# Altium integrated library Lattice CPLD ispMACH.IntLib: 663 symbols (part 41 of 48)
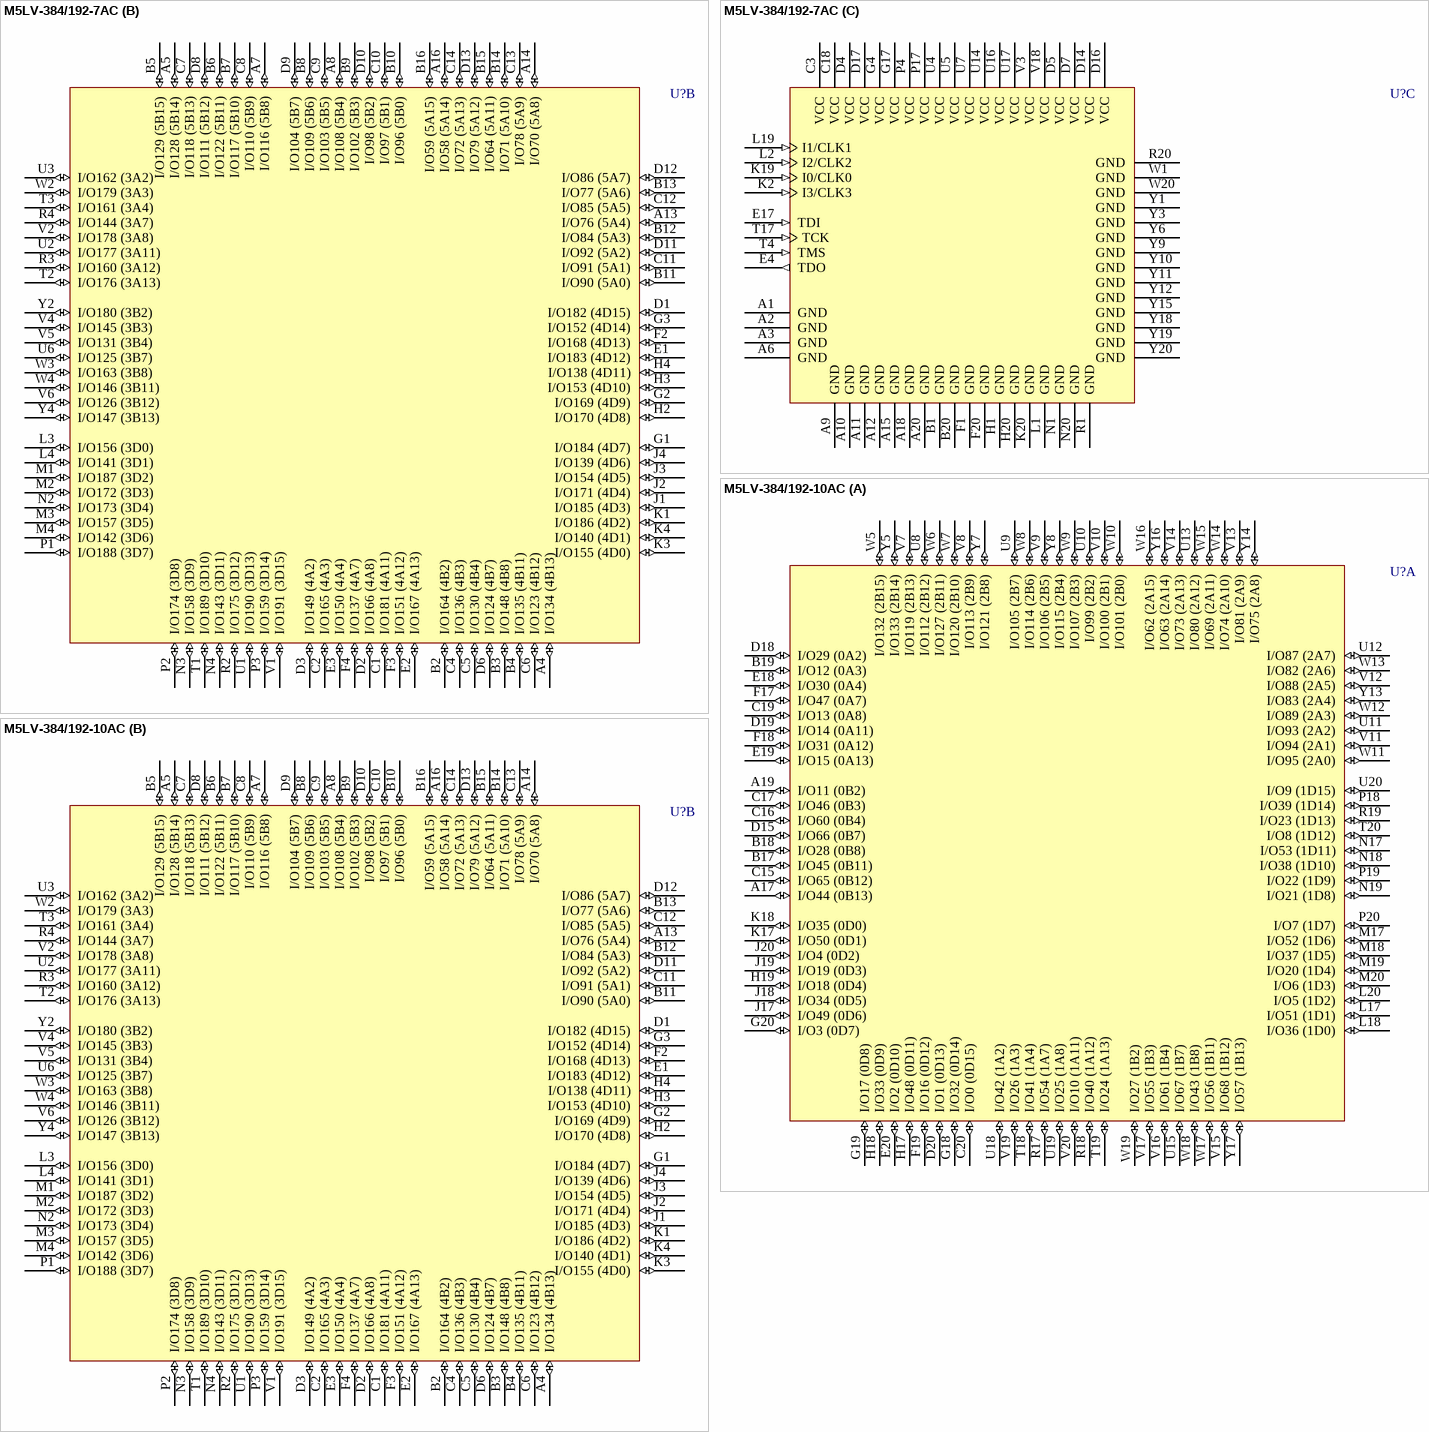
[diagram p346: symbols M5LV-384/192-7AC to M5LV-384/192-10AC]

## M5LV-384/192-7AC
designator U?
High-Density and High-I/O Complex PLD; Published: 23-Sep-2002; LatestRevisionDate: 13-Apr-2006; LatestRevisionNote: IPC-7351 Footprint Added.; DatasheetVersion: Sep-2000; PackageVersion: pkg_32, Aug-2005; PackageReference: SBGA256; Publisher: Altium Limited; PackageDescription: 256-Ball Super Ball Grid Array (SBGA256); ComponentLink1Description: Manufacturer Link; ComponentLink1URL: http://www.latticesemi.com/products/mature/index.cfm; ComponentLink2Description: Datasheet; ComponentLink2URL: http://www.latticesemi.com/lit/docs/datasheets/cpld/mach5.pdf
footprint SBGA256 (BGA, 256-Leads, Body 27x27mm, Pitch 1.27mm)
3D model M5LV-SBGA256 (256-Ball Super Ball Grid Array (SBGA256))
part A pins: A17 I/O44 (0B13) (io), A19 I/O11 (0B2) (io), B17 I/O45 (0B11) (io), B18 I/O28 (0B8) (io), B19 I/O12 (0A3) (io), C15 I/O65 (0B12) (io), C16 I/O60 (0B4) (io), C17 I/O46 (0B3) (io), C19 I/O13 (0A8) (io), C20 I/O0 (0D15) (io), D15 I/O66 (0B7) (io), D18 I/O29 (0A2) (io), D19 I/O14 (0A11) (io), D20 I/O1 (0D13) (io), E18 I/O30 (0A4) (io), E19 I/O15 (0A13) (io), E20 I/O2 (0D10) (io), F17 I/O47 (0A7) (io), F18 I/O31 (0A12) (io), F19 I/O16 (0D12) (io), G18 I/O32 (0D14) (io), G19 I/O17 (0D8) (io), G20 I/O3 (0D7) (io), H17 I/O48 (0D11) (io), H18 I/O33 (0D9) (io), H19 I/O18 (0D4) (io), J17 I/O49 (0D6) (io), J18 I/O34 (0D5) (io), J19 I/O19 (0D3) (io), J20 I/O4 (0D2) (io), K17 I/O50 (0D1) (io), K18 I/O35 (0D0) (io), L17 I/O51 (1D1) (io), L18 I/O36 (1D0) (io), L20 I/O5 (1D2) (io), M17 I/O52 (1D6) (io), M18 I/O37 (1D5) (io), M19 I/O20 (1D4) (io), M20 I/O6 (1D3) (io), N17 I/O53 (1D11) (io), N18 I/O38 (1D10) (io), N19 I/O21 (1D8) (io), P18 I/O39 (1D14) (io), P19 I/O22 (1D9) (io), P20 I/O7 (1D7) (io), R17 I/O54 (1A7) (io), R18 I/O40 (1A12) (io), R19 I/O23 (1D13) (io), T18 I/O41 (1A4) (io), T19 I/O24 (1A13) (io), T20 I/O8 (1D12) (io), U8 I/O112 (2B12) (io), U9 I/O105 (2B7) (io), U10 I/O99 (2B2) (io), U11 I/O93 (2A2) (io), U12 I/O87 (2A7) (io), U13 I/O80 (2A12) (io), U15 I/O67 (1B7) (io), U18 I/O42 (1A2) (io), U19 I/O25 (1A8) (io), U20 I/O9 (1D15) (io), V7 I/O119 (2B13) (io), V8 I/O113 (2B9) (io), V9 I/O106 (2B5) (io), V10 I/O100 (2B1) (io), V11 I/O94 (2A1) (io), V12 I/O88 (2A5) (io), V13 I/O81 (2A9) (io), V14 I/O73 (2A13) (io), V15 I/O68 (1B12) (io), V16 I/O61 (1B4) (io), V17 I/O55 (1B3) (io), V19 I/O26 (1A3) (io), V20 I/O10 (1A11) (io), W5 I/O132 (2B15) (io), W6 I/O127 (2B11) (io), W7 I/O120 (2B10) (io), W8 I/O114 (2B6) (io), W9 I/O107 (2B3) (io), W10 I/O101 (2B0) (io), W11 I/O95 (2A0) (io), W12 I/O89 (2A3) (io), W13 I/O82 (2A6) (io), W14 I/O74 (2A10) (io), W15 I/O69 (2A11) (io), W16 I/O62 (2A15) (io), W17 I/O56 (1B11) (io), W18 I/O43 (1B8) (io), W19 I/O27 (1B2) (io), Y5 I/O133 (2B14) (io), Y7 I/O121 (2B8) (io), Y8 I/O115 (2B4) (io), Y13 I/O83 (2A4) (io), Y14 I/O75 (2A8) (io), Y16 I/O63 (2A14) (io), Y17 I/O57 (1B13) (io)
part B pins: A4 I/O134 (4B13) (io), A5 I/O128 (5B14) (io), A7 I/O116 (5B8) (io), A8 I/O108 (5B4) (io), A13 I/O76 (5A4) (io), A14 I/O70 (5A8) (io), A16 I/O58 (5A14) (io), B2 I/O164 (4B2) (io), B3 I/O148 (4B8) (io), B4 I/O135 (4B11) (io), B5 I/O129 (5B15) (io), B6 I/O122 (5B11) (io), B7 I/O117 (5B10) (io), B8 I/O109 (5B6) (io), B9 I/O102 (5B3) (io), B10 I/O96 (5B0) (io), B11 I/O90 (5A0) (io), B12 I/O84 (5A3) (io), B13 I/O77 (5A6) (io), B14 I/O71 (5A10) (io), B15 I/O64 (5A11) (io), B16 I/O59 (5A15) (io), C1 I/O181 (4A11) (io), C2 I/O165 (4A3) (io), C4 I/O136 (4B3) (io), C5 I/O130 (4B4) (io), C6 I/O123 (4B12) (io), C7 I/O118 (5B13) (io), C8 I/O110 (5B9) (io), C9 I/O103 (5B5) (io), C10 I/O97 (5B1) (io), C11 I/O91 (5A1) (io), C12 I/O85 (5A5) (io), C13 I/O78 (5A9) (io), C14 I/O72 (5A13) (io), D1 I/O182 (4D15) (io), D2 I/O166 (4A8) (io), D3 I/O149 (4A2) (io), D6 I/O124 (4B7) (io), D8 I/O111 (5B12) (io), D9 I/O104 (5B7) (io), D10 I/O98 (5B2) (io), D11 I/O92 (5A2) (io), D12 I/O86 (5A7) (io), D13 I/O79 (5A12) (io), E1 I/O183 (4D12) (io), E2 I/O167 (4A13) (io), E3 I/O150 (4A4) (io), F2 I/O168 (4D13) (io), F3 I/O151 (4A12) (io), F4 I/O137 (4A7) (io), G1 I/O184 (4D7) (io), G2 I/O169 (4D9) (io), G3 I/O152 (4D14) (io), H2 I/O170 (4D8) (io), H3 I/O153 (4D10) (io), H4 I/O138 (4D11) (io), J1 I/O185 (4D3) (io), J2 I/O171 (4D4) (io), J3 I/O154 (4D5) (io), J4 I/O139 (4D6) (io), K1 I/O186 (4D2) (io), K3 I/O155 (4D0) (io), K4 I/O140 (4D1) (io), L3 I/O156 (3D0) (io), L4 I/O141 (3D1) (io), M1 I/O187 (3D2) (io), M2 I/O172 (3D3) (io), M3 I/O157 (3D5) (io), M4 I/O142 (3D6) (io), N2 I/O173 (3D4) (io), N3 I/O158 (3D9) (io), N4 I/O143 (3D11) (io), P1 I/O188 (3D7) (io), P2 I/O174 (3D8) (io), P3 I/O159 (3D14) (io), R2 I/O175 (3D12) (io), R3 I/O160 (3A12) (io), R4 I/O144 (3A7) (io), T1 I/O189 (3D10) (io), T2 I/O176 (3A13) (io), T3 I/O161 (3A4) (io), U1 I/O190 (3D13) (io), U2 I/O177 (3A11) (io), U3 I/O162 (3A2) (io), U6 I/O125 (3B7) (io), V1 I/O191 (3D15) (io), V2 I/O178 (3A8) (io), V4 I/O145 (3B3) (io), V5 I/O131 (3B4) (io), V6 I/O126 (3B12) (io), W2 I/O179 (3A3) (io), W3 I/O163 (3B8) (io), W4 I/O146 (3B11) (io), Y2 I/O180 (3B2) (io), Y4 I/O147 (3B13) (io)
part C pins: A1 GND (power), A2 GND (power), A3 GND (power), A6 GND (power), A9 GND (power), A10 GND (power), A11 GND (power), A12 GND (power), A15 GND (power), A18 GND (power), A20 GND (power), B1 GND (power), B20 GND (power), C3 VCC (power), C18 VCC (power), D4 VCC (power), D5 VCC (power), D7 VCC (power), D14 VCC (power), D16 VCC (power), D17 VCC (power), E4 TDO (out), E17 TDI (in), F1 GND (power), F20 GND (power), G4 VCC (power), G17 VCC (power), H1 GND (power), H20 GND (power), K2 I3/CLK3 (in), K19 I0/CLK0 (in), K20 GND (power), L1 GND (power), L2 I2/CLK2 (in), L19 I1/CLK1 (in), N1 GND (power), N20 GND (power), P4 VCC (power), P17 VCC (power), R1 GND (power), R20 GND (power), T4 TMS (in), T17 TCK (in), U4 VCC (power), U5 VCC (power), U7 VCC (power), U14 VCC (power), U16 VCC (power), U17 VCC (power), V3 VCC (power), V18 VCC (power), W1 GND (power), W20 GND (power), Y1 GND (power), Y3 GND (power), Y6 GND (power), Y9 GND (power), Y10 GND (power), Y11 GND (power), Y12 GND (power), Y15 GND (power), Y18 GND (power), Y19 GND (power), Y20 GND (power)

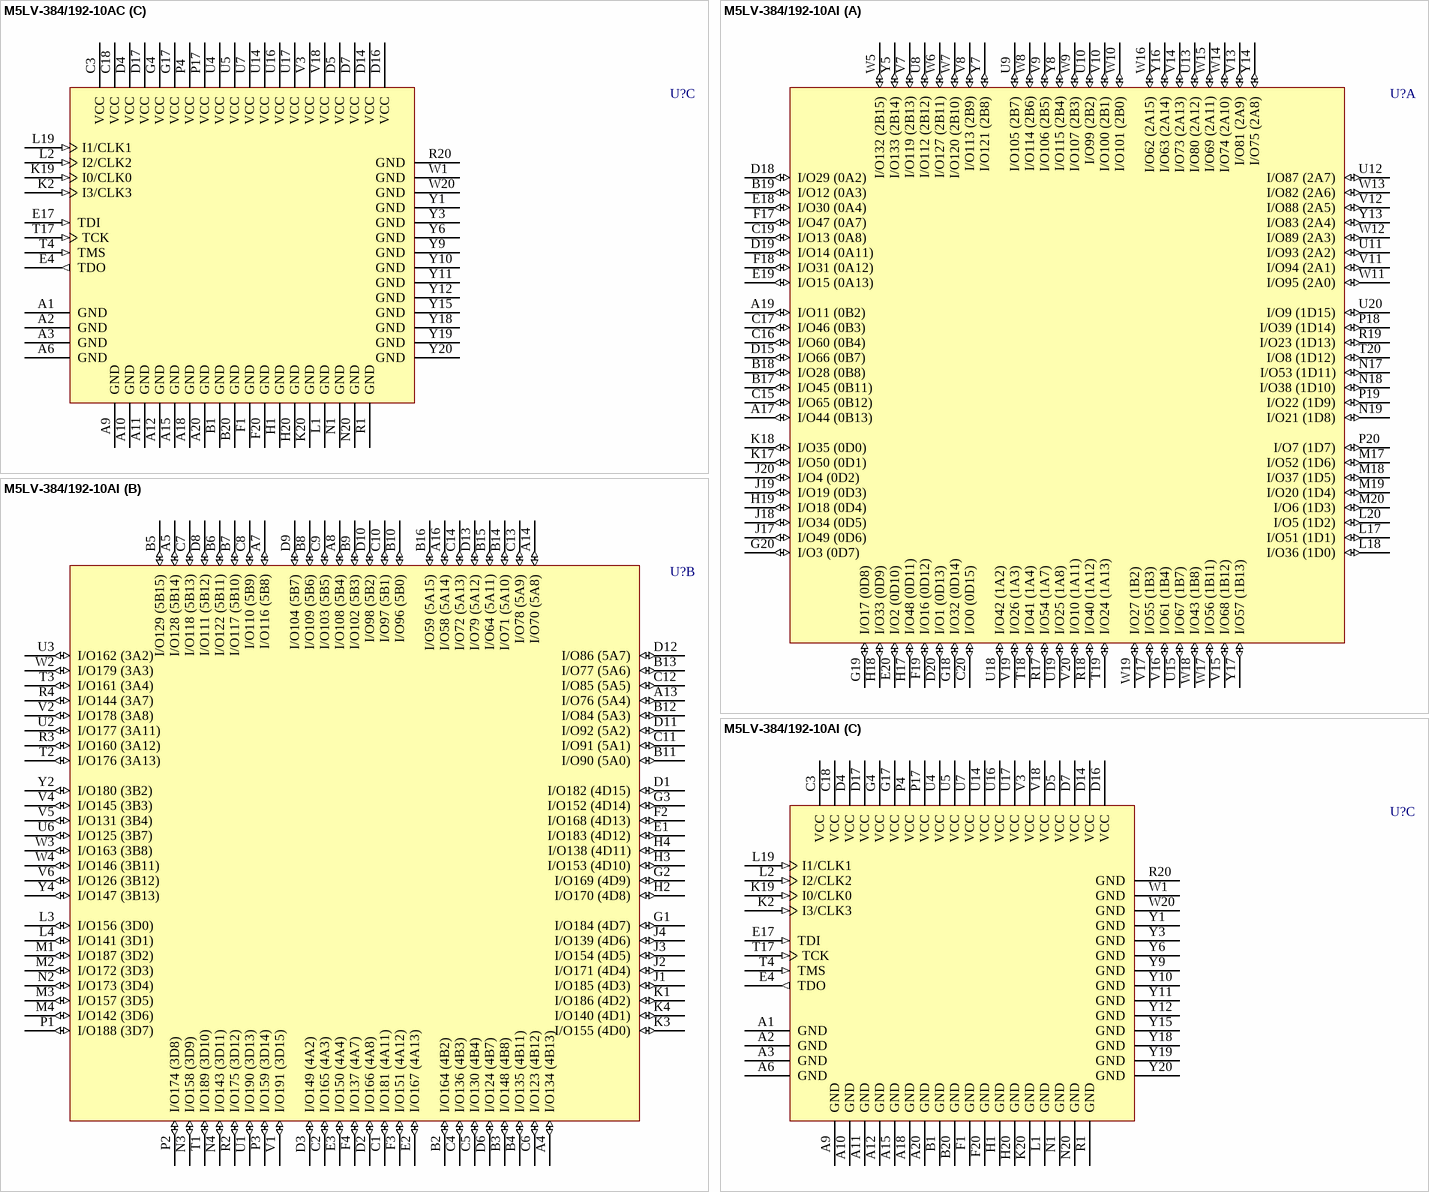
[diagram p253: symbols M5LV-384/192-10AC to M5LV-384/192-10AI]

## M5LV-384/192-10AC
designator U?
High-Density and High-I/O Complex PLD; Published: 23-Sep-2002; LatestRevisionDate: 13-Apr-2006; LatestRevisionNote: IPC-7351 Footprint Added.; DatasheetVersion: Sep-2000; PackageVersion: pkg_32, Aug-2005; PackageReference: SBGA256; Publisher: Altium Limited; PackageDescription: 256-Ball Super Ball Grid Array (SBGA256); ComponentLink1Description: Manufacturer Link; ComponentLink1URL: http://www.latticesemi.com/products/mature/index.cfm; ComponentLink2Description: Datasheet; ComponentLink2URL: http://www.latticesemi.com/lit/docs/datasheets/cpld/mach5.pdf
footprint SBGA256 (BGA, 256-Leads, Body 27x27mm, Pitch 1.27mm)
3D model M5LV-SBGA256 (256-Ball Super Ball Grid Array (SBGA256))
part A pins: A17 I/O44 (0B13) (io), A19 I/O11 (0B2) (io), B17 I/O45 (0B11) (io), B18 I/O28 (0B8) (io), B19 I/O12 (0A3) (io), C15 I/O65 (0B12) (io), C16 I/O60 (0B4) (io), C17 I/O46 (0B3) (io), C19 I/O13 (0A8) (io), C20 I/O0 (0D15) (io), D15 I/O66 (0B7) (io), D18 I/O29 (0A2) (io), D19 I/O14 (0A11) (io), D20 I/O1 (0D13) (io), E18 I/O30 (0A4) (io), E19 I/O15 (0A13) (io), E20 I/O2 (0D10) (io), F17 I/O47 (0A7) (io), F18 I/O31 (0A12) (io), F19 I/O16 (0D12) (io), G18 I/O32 (0D14) (io), G19 I/O17 (0D8) (io), G20 I/O3 (0D7) (io), H17 I/O48 (0D11) (io), H18 I/O33 (0D9) (io), H19 I/O18 (0D4) (io), J17 I/O49 (0D6) (io), J18 I/O34 (0D5) (io), J19 I/O19 (0D3) (io), J20 I/O4 (0D2) (io), K17 I/O50 (0D1) (io), K18 I/O35 (0D0) (io), L17 I/O51 (1D1) (io), L18 I/O36 (1D0) (io), L20 I/O5 (1D2) (io), M17 I/O52 (1D6) (io), M18 I/O37 (1D5) (io), M19 I/O20 (1D4) (io), M20 I/O6 (1D3) (io), N17 I/O53 (1D11) (io), N18 I/O38 (1D10) (io), N19 I/O21 (1D8) (io), P18 I/O39 (1D14) (io), P19 I/O22 (1D9) (io), P20 I/O7 (1D7) (io), R17 I/O54 (1A7) (io), R18 I/O40 (1A12) (io), R19 I/O23 (1D13) (io), T18 I/O41 (1A4) (io), T19 I/O24 (1A13) (io), T20 I/O8 (1D12) (io), U8 I/O112 (2B12) (io), U9 I/O105 (2B7) (io), U10 I/O99 (2B2) (io), U11 I/O93 (2A2) (io), U12 I/O87 (2A7) (io), U13 I/O80 (2A12) (io), U15 I/O67 (1B7) (io), U18 I/O42 (1A2) (io), U19 I/O25 (1A8) (io), U20 I/O9 (1D15) (io), V7 I/O119 (2B13) (io), V8 I/O113 (2B9) (io), V9 I/O106 (2B5) (io), V10 I/O100 (2B1) (io), V11 I/O94 (2A1) (io), V12 I/O88 (2A5) (io), V13 I/O81 (2A9) (io), V14 I/O73 (2A13) (io), V15 I/O68 (1B12) (io), V16 I/O61 (1B4) (io), V17 I/O55 (1B3) (io), V19 I/O26 (1A3) (io), V20 I/O10 (1A11) (io), W5 I/O132 (2B15) (io), W6 I/O127 (2B11) (io), W7 I/O120 (2B10) (io), W8 I/O114 (2B6) (io), W9 I/O107 (2B3) (io), W10 I/O101 (2B0) (io), W11 I/O95 (2A0) (io), W12 I/O89 (2A3) (io), W13 I/O82 (2A6) (io), W14 I/O74 (2A10) (io), W15 I/O69 (2A11) (io), W16 I/O62 (2A15) (io), W17 I/O56 (1B11) (io), W18 I/O43 (1B8) (io), W19 I/O27 (1B2) (io), Y5 I/O133 (2B14) (io), Y7 I/O121 (2B8) (io), Y8 I/O115 (2B4) (io), Y13 I/O83 (2A4) (io), Y14 I/O75 (2A8) (io), Y16 I/O63 (2A14) (io), Y17 I/O57 (1B13) (io)
part B pins: A4 I/O134 (4B13) (io), A5 I/O128 (5B14) (io), A7 I/O116 (5B8) (io), A8 I/O108 (5B4) (io), A13 I/O76 (5A4) (io), A14 I/O70 (5A8) (io), A16 I/O58 (5A14) (io), B2 I/O164 (4B2) (io), B3 I/O148 (4B8) (io), B4 I/O135 (4B11) (io), B5 I/O129 (5B15) (io), B6 I/O122 (5B11) (io), B7 I/O117 (5B10) (io), B8 I/O109 (5B6) (io), B9 I/O102 (5B3) (io), B10 I/O96 (5B0) (io), B11 I/O90 (5A0) (io), B12 I/O84 (5A3) (io), B13 I/O77 (5A6) (io), B14 I/O71 (5A10) (io), B15 I/O64 (5A11) (io), B16 I/O59 (5A15) (io), C1 I/O181 (4A11) (io), C2 I/O165 (4A3) (io), C4 I/O136 (4B3) (io), C5 I/O130 (4B4) (io), C6 I/O123 (4B12) (io), C7 I/O118 (5B13) (io), C8 I/O110 (5B9) (io), C9 I/O103 (5B5) (io), C10 I/O97 (5B1) (io), C11 I/O91 (5A1) (io), C12 I/O85 (5A5) (io), C13 I/O78 (5A9) (io), C14 I/O72 (5A13) (io), D1 I/O182 (4D15) (io), D2 I/O166 (4A8) (io), D3 I/O149 (4A2) (io), D6 I/O124 (4B7) (io), D8 I/O111 (5B12) (io), D9 I/O104 (5B7) (io), D10 I/O98 (5B2) (io), D11 I/O92 (5A2) (io), D12 I/O86 (5A7) (io), D13 I/O79 (5A12) (io), E1 I/O183 (4D12) (io), E2 I/O167 (4A13) (io), E3 I/O150 (4A4) (io), F2 I/O168 (4D13) (io), F3 I/O151 (4A12) (io), F4 I/O137 (4A7) (io), G1 I/O184 (4D7) (io), G2 I/O169 (4D9) (io), G3 I/O152 (4D14) (io), H2 I/O170 (4D8) (io), H3 I/O153 (4D10) (io), H4 I/O138 (4D11) (io), J1 I/O185 (4D3) (io), J2 I/O171 (4D4) (io), J3 I/O154 (4D5) (io), J4 I/O139 (4D6) (io), K1 I/O186 (4D2) (io), K3 I/O155 (4D0) (io), K4 I/O140 (4D1) (io), L3 I/O156 (3D0) (io), L4 I/O141 (3D1) (io), M1 I/O187 (3D2) (io), M2 I/O172 (3D3) (io), M3 I/O157 (3D5) (io), M4 I/O142 (3D6) (io), N2 I/O173 (3D4) (io), N3 I/O158 (3D9) (io), N4 I/O143 (3D11) (io), P1 I/O188 (3D7) (io), P2 I/O174 (3D8) (io), P3 I/O159 (3D14) (io), R2 I/O175 (3D12) (io), R3 I/O160 (3A12) (io), R4 I/O144 (3A7) (io), T1 I/O189 (3D10) (io), T2 I/O176 (3A13) (io), T3 I/O161 (3A4) (io), U1 I/O190 (3D13) (io), U2 I/O177 (3A11) (io), U3 I/O162 (3A2) (io), U6 I/O125 (3B7) (io), V1 I/O191 (3D15) (io), V2 I/O178 (3A8) (io), V4 I/O145 (3B3) (io), V5 I/O131 (3B4) (io), V6 I/O126 (3B12) (io), W2 I/O179 (3A3) (io), W3 I/O163 (3B8) (io), W4 I/O146 (3B11) (io), Y2 I/O180 (3B2) (io), Y4 I/O147 (3B13) (io)
part C pins: A1 GND (power), A2 GND (power), A3 GND (power), A6 GND (power), A9 GND (power), A10 GND (power), A11 GND (power), A12 GND (power), A15 GND (power), A18 GND (power), A20 GND (power), B1 GND (power), B20 GND (power), C3 VCC (power), C18 VCC (power), D4 VCC (power), D5 VCC (power), D7 VCC (power), D14 VCC (power), D16 VCC (power), D17 VCC (power), E4 TDO (out), E17 TDI (in), F1 GND (power), F20 GND (power), G4 VCC (power), G17 VCC (power), H1 GND (power), H20 GND (power), K2 I3/CLK3 (in), K19 I0/CLK0 (in), K20 GND (power), L1 GND (power), L2 I2/CLK2 (in), L19 I1/CLK1 (in), N1 GND (power), N20 GND (power), P4 VCC (power), P17 VCC (power), R1 GND (power), R20 GND (power), T4 TMS (in), T17 TCK (in), U4 VCC (power), U5 VCC (power), U7 VCC (power), U14 VCC (power), U16 VCC (power), U17 VCC (power), V3 VCC (power), V18 VCC (power), W1 GND (power), W20 GND (power), Y1 GND (power), Y3 GND (power), Y6 GND (power), Y9 GND (power), Y10 GND (power), Y11 GND (power), Y12 GND (power), Y15 GND (power), Y18 GND (power), Y19 GND (power), Y20 GND (power)

## M5LV-384/192-10AI
designator U?
High-Density and High-I/O Complex PLD; Published: 23-Sep-2002; LatestRevisionDate: 13-Apr-2006; LatestRevisionNote: IPC-7351 Footprint Added.; DatasheetVersion: Sep-2000; PackageVersion: pkg_32, Aug-2005; PackageReference: SBGA256; Publisher: Altium Limited; PackageDescription: 256-Ball Super Ball Grid Array (SBGA256); ComponentLink1Description: Manufacturer Link; ComponentLink1URL: http://www.latticesemi.com/products/mature/index.cfm; ComponentLink2Description: Datasheet; ComponentLink2URL: http://www.latticesemi.com/lit/docs/datasheets/cpld/mach5.pdf
footprint SBGA256 (BGA, 256-Leads, Body 27x27mm, Pitch 1.27mm)
3D model M5LV-SBGA256 (256-Ball Super Ball Grid Array (SBGA256))
part A pins: A17 I/O44 (0B13) (io), A19 I/O11 (0B2) (io), B17 I/O45 (0B11) (io), B18 I/O28 (0B8) (io), B19 I/O12 (0A3) (io), C15 I/O65 (0B12) (io), C16 I/O60 (0B4) (io), C17 I/O46 (0B3) (io), C19 I/O13 (0A8) (io), C20 I/O0 (0D15) (io), D15 I/O66 (0B7) (io), D18 I/O29 (0A2) (io), D19 I/O14 (0A11) (io), D20 I/O1 (0D13) (io), E18 I/O30 (0A4) (io), E19 I/O15 (0A13) (io), E20 I/O2 (0D10) (io), F17 I/O47 (0A7) (io), F18 I/O31 (0A12) (io), F19 I/O16 (0D12) (io), G18 I/O32 (0D14) (io), G19 I/O17 (0D8) (io), G20 I/O3 (0D7) (io), H17 I/O48 (0D11) (io), H18 I/O33 (0D9) (io), H19 I/O18 (0D4) (io), J17 I/O49 (0D6) (io), J18 I/O34 (0D5) (io), J19 I/O19 (0D3) (io), J20 I/O4 (0D2) (io), K17 I/O50 (0D1) (io), K18 I/O35 (0D0) (io), L17 I/O51 (1D1) (io), L18 I/O36 (1D0) (io), L20 I/O5 (1D2) (io), M17 I/O52 (1D6) (io), M18 I/O37 (1D5) (io), M19 I/O20 (1D4) (io), M20 I/O6 (1D3) (io), N17 I/O53 (1D11) (io), N18 I/O38 (1D10) (io), N19 I/O21 (1D8) (io), P18 I/O39 (1D14) (io), P19 I/O22 (1D9) (io), P20 I/O7 (1D7) (io), R17 I/O54 (1A7) (io), R18 I/O40 (1A12) (io), R19 I/O23 (1D13) (io), T18 I/O41 (1A4) (io), T19 I/O24 (1A13) (io), T20 I/O8 (1D12) (io), U8 I/O112 (2B12) (io), U9 I/O105 (2B7) (io), U10 I/O99 (2B2) (io), U11 I/O93 (2A2) (io), U12 I/O87 (2A7) (io), U13 I/O80 (2A12) (io), U15 I/O67 (1B7) (io), U18 I/O42 (1A2) (io), U19 I/O25 (1A8) (io), U20 I/O9 (1D15) (io), V7 I/O119 (2B13) (io), V8 I/O113 (2B9) (io), V9 I/O106 (2B5) (io), V10 I/O100 (2B1) (io), V11 I/O94 (2A1) (io), V12 I/O88 (2A5) (io), V13 I/O81 (2A9) (io), V14 I/O73 (2A13) (io), V15 I/O68 (1B12) (io), V16 I/O61 (1B4) (io), V17 I/O55 (1B3) (io), V19 I/O26 (1A3) (io), V20 I/O10 (1A11) (io), W5 I/O132 (2B15) (io), W6 I/O127 (2B11) (io), W7 I/O120 (2B10) (io), W8 I/O114 (2B6) (io), W9 I/O107 (2B3) (io), W10 I/O101 (2B0) (io), W11 I/O95 (2A0) (io), W12 I/O89 (2A3) (io), W13 I/O82 (2A6) (io), W14 I/O74 (2A10) (io), W15 I/O69 (2A11) (io), W16 I/O62 (2A15) (io), W17 I/O56 (1B11) (io), W18 I/O43 (1B8) (io), W19 I/O27 (1B2) (io), Y5 I/O133 (2B14) (io), Y7 I/O121 (2B8) (io), Y8 I/O115 (2B4) (io), Y13 I/O83 (2A4) (io), Y14 I/O75 (2A8) (io), Y16 I/O63 (2A14) (io), Y17 I/O57 (1B13) (io)
part B pins: A4 I/O134 (4B13) (io), A5 I/O128 (5B14) (io), A7 I/O116 (5B8) (io), A8 I/O108 (5B4) (io), A13 I/O76 (5A4) (io), A14 I/O70 (5A8) (io), A16 I/O58 (5A14) (io), B2 I/O164 (4B2) (io), B3 I/O148 (4B8) (io), B4 I/O135 (4B11) (io), B5 I/O129 (5B15) (io), B6 I/O122 (5B11) (io), B7 I/O117 (5B10) (io), B8 I/O109 (5B6) (io), B9 I/O102 (5B3) (io), B10 I/O96 (5B0) (io), B11 I/O90 (5A0) (io), B12 I/O84 (5A3) (io), B13 I/O77 (5A6) (io), B14 I/O71 (5A10) (io), B15 I/O64 (5A11) (io), B16 I/O59 (5A15) (io), C1 I/O181 (4A11) (io), C2 I/O165 (4A3) (io), C4 I/O136 (4B3) (io), C5 I/O130 (4B4) (io), C6 I/O123 (4B12) (io), C7 I/O118 (5B13) (io), C8 I/O110 (5B9) (io), C9 I/O103 (5B5) (io), C10 I/O97 (5B1) (io), C11 I/O91 (5A1) (io), C12 I/O85 (5A5) (io), C13 I/O78 (5A9) (io), C14 I/O72 (5A13) (io), D1 I/O182 (4D15) (io), D2 I/O166 (4A8) (io), D3 I/O149 (4A2) (io), D6 I/O124 (4B7) (io), D8 I/O111 (5B12) (io), D9 I/O104 (5B7) (io), D10 I/O98 (5B2) (io), D11 I/O92 (5A2) (io), D12 I/O86 (5A7) (io), D13 I/O79 (5A12) (io), E1 I/O183 (4D12) (io), E2 I/O167 (4A13) (io), E3 I/O150 (4A4) (io), F2 I/O168 (4D13) (io), F3 I/O151 (4A12) (io), F4 I/O137 (4A7) (io), G1 I/O184 (4D7) (io), G2 I/O169 (4D9) (io), G3 I/O152 (4D14) (io), H2 I/O170 (4D8) (io), H3 I/O153 (4D10) (io), H4 I/O138 (4D11) (io), J1 I/O185 (4D3) (io), J2 I/O171 (4D4) (io), J3 I/O154 (4D5) (io), J4 I/O139 (4D6) (io), K1 I/O186 (4D2) (io), K3 I/O155 (4D0) (io), K4 I/O140 (4D1) (io), L3 I/O156 (3D0) (io), L4 I/O141 (3D1) (io), M1 I/O187 (3D2) (io), M2 I/O172 (3D3) (io), M3 I/O157 (3D5) (io), M4 I/O142 (3D6) (io), N2 I/O173 (3D4) (io), N3 I/O158 (3D9) (io), N4 I/O143 (3D11) (io), P1 I/O188 (3D7) (io), P2 I/O174 (3D8) (io), P3 I/O159 (3D14) (io), R2 I/O175 (3D12) (io), R3 I/O160 (3A12) (io), R4 I/O144 (3A7) (io), T1 I/O189 (3D10) (io), T2 I/O176 (3A13) (io), T3 I/O161 (3A4) (io), U1 I/O190 (3D13) (io), U2 I/O177 (3A11) (io), U3 I/O162 (3A2) (io), U6 I/O125 (3B7) (io), V1 I/O191 (3D15) (io), V2 I/O178 (3A8) (io), V4 I/O145 (3B3) (io), V5 I/O131 (3B4) (io), V6 I/O126 (3B12) (io), W2 I/O179 (3A3) (io), W3 I/O163 (3B8) (io), W4 I/O146 (3B11) (io), Y2 I/O180 (3B2) (io), Y4 I/O147 (3B13) (io)
part C pins: A1 GND (power), A2 GND (power), A3 GND (power), A6 GND (power), A9 GND (power), A10 GND (power), A11 GND (power), A12 GND (power), A15 GND (power), A18 GND (power), A20 GND (power), B1 GND (power), B20 GND (power), C3 VCC (power), C18 VCC (power), D4 VCC (power), D5 VCC (power), D7 VCC (power), D14 VCC (power), D16 VCC (power), D17 VCC (power), E4 TDO (out), E17 TDI (in), F1 GND (power), F20 GND (power), G4 VCC (power), G17 VCC (power), H1 GND (power), H20 GND (power), K2 I3/CLK3 (in), K19 I0/CLK0 (in), K20 GND (power), L1 GND (power), L2 I2/CLK2 (in), L19 I1/CLK1 (in), N1 GND (power), N20 GND (power), P4 VCC (power), P17 VCC (power), R1 GND (power), R20 GND (power), T4 TMS (in), T17 TCK (in), U4 VCC (power), U5 VCC (power), U7 VCC (power), U14 VCC (power), U16 VCC (power), U17 VCC (power), V3 VCC (power), V18 VCC (power), W1 GND (power), W20 GND (power), Y1 GND (power), Y3 GND (power), Y6 GND (power), Y9 GND (power), Y10 GND (power), Y11 GND (power), Y12 GND (power), Y15 GND (power), Y18 GND (power), Y19 GND (power), Y20 GND (power)

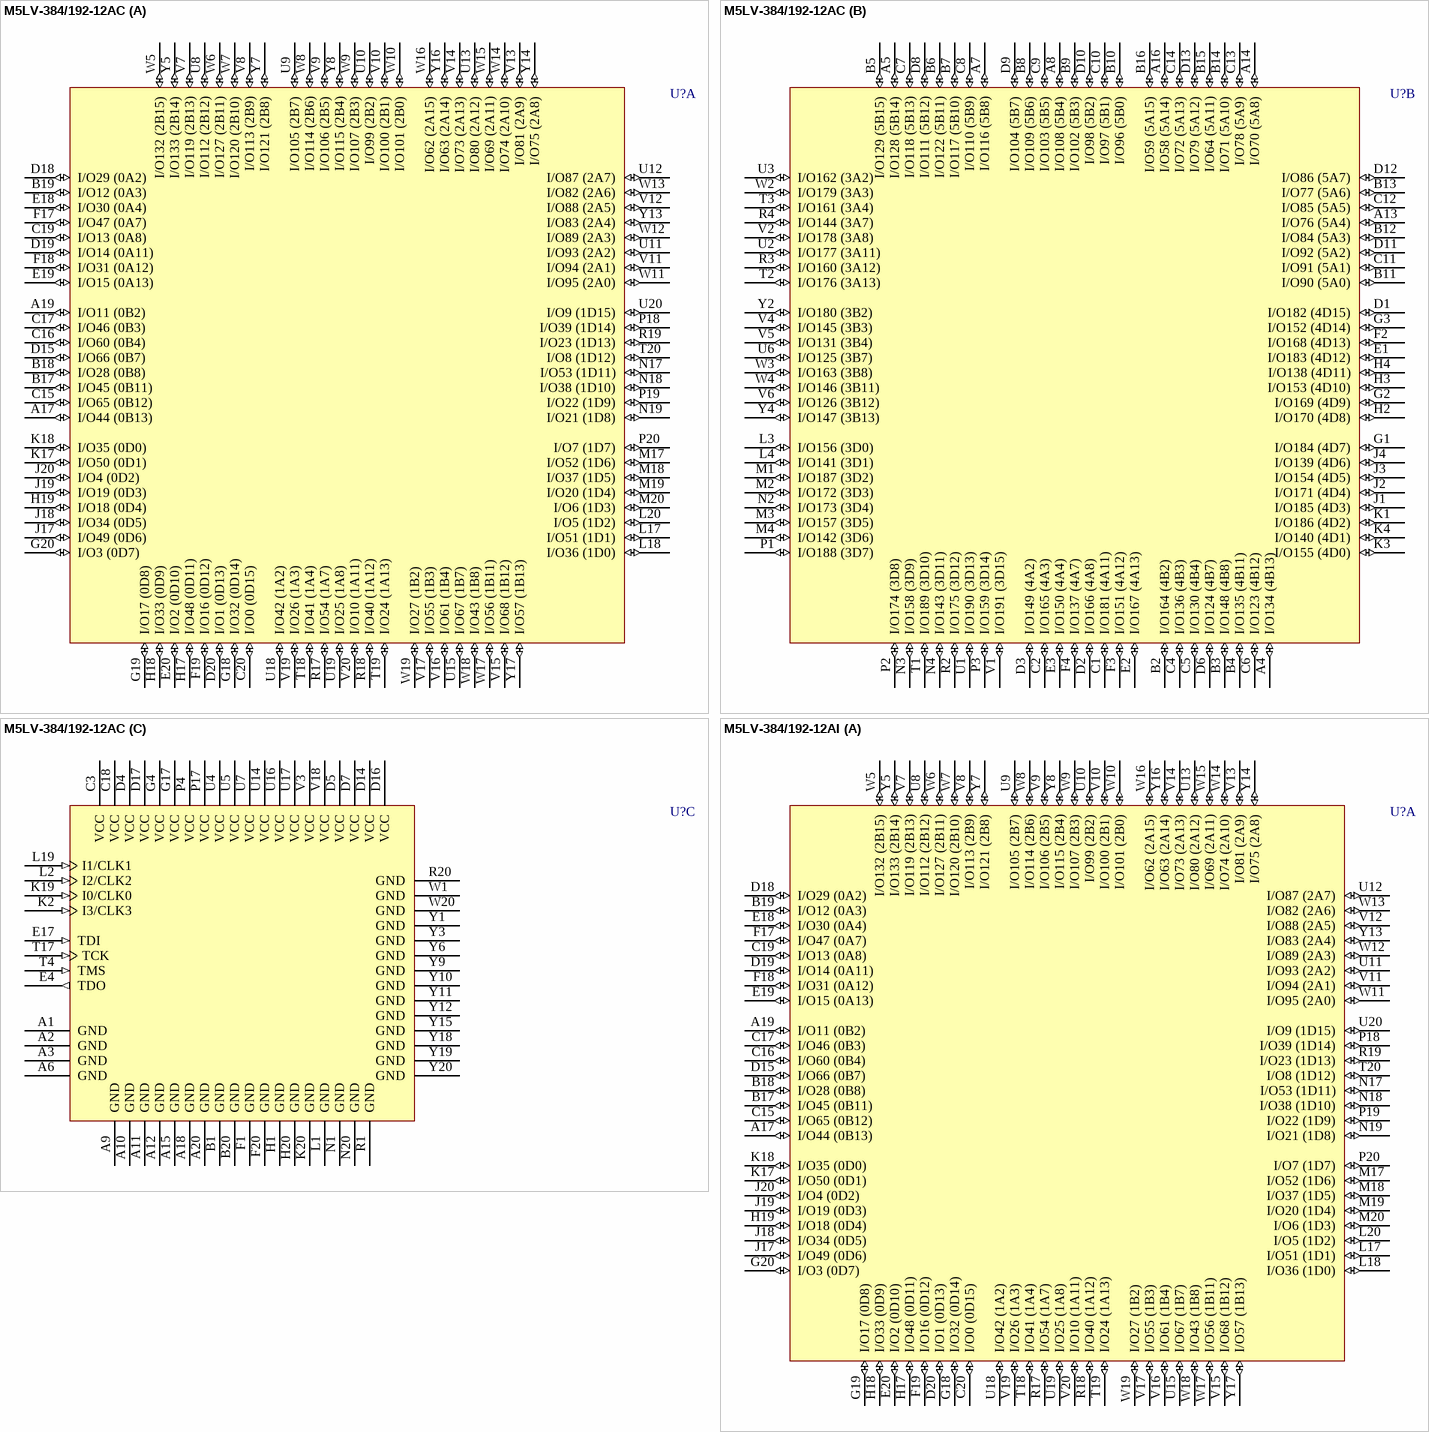
[diagram p254: symbols M5LV-384/192-12AC to M5LV-384/192-12AI]

## M5LV-384/192-12AC
designator U?
High-Density and High-I/O Complex PLD; Published: 23-Sep-2002; LatestRevisionDate: 13-Apr-2006; LatestRevisionNote: IPC-7351 Footprint Added.; DatasheetVersion: Sep-2000; PackageVersion: pkg_32, Aug-2005; PackageReference: SBGA256; Publisher: Altium Limited; PackageDescription: 256-Ball Super Ball Grid Array (SBGA256); ComponentLink1Description: Manufacturer Link; ComponentLink1URL: http://www.latticesemi.com/products/mature/index.cfm; ComponentLink2Description: Datasheet; ComponentLink2URL: http://www.latticesemi.com/lit/docs/datasheets/cpld/mach5.pdf
footprint SBGA256 (BGA, 256-Leads, Body 27x27mm, Pitch 1.27mm)
3D model M5LV-SBGA256 (256-Ball Super Ball Grid Array (SBGA256))
part A pins: A17 I/O44 (0B13) (io), A19 I/O11 (0B2) (io), B17 I/O45 (0B11) (io), B18 I/O28 (0B8) (io), B19 I/O12 (0A3) (io), C15 I/O65 (0B12) (io), C16 I/O60 (0B4) (io), C17 I/O46 (0B3) (io), C19 I/O13 (0A8) (io), C20 I/O0 (0D15) (io), D15 I/O66 (0B7) (io), D18 I/O29 (0A2) (io), D19 I/O14 (0A11) (io), D20 I/O1 (0D13) (io), E18 I/O30 (0A4) (io), E19 I/O15 (0A13) (io), E20 I/O2 (0D10) (io), F17 I/O47 (0A7) (io), F18 I/O31 (0A12) (io), F19 I/O16 (0D12) (io), G18 I/O32 (0D14) (io), G19 I/O17 (0D8) (io), G20 I/O3 (0D7) (io), H17 I/O48 (0D11) (io), H18 I/O33 (0D9) (io), H19 I/O18 (0D4) (io), J17 I/O49 (0D6) (io), J18 I/O34 (0D5) (io), J19 I/O19 (0D3) (io), J20 I/O4 (0D2) (io), K17 I/O50 (0D1) (io), K18 I/O35 (0D0) (io), L17 I/O51 (1D1) (io), L18 I/O36 (1D0) (io), L20 I/O5 (1D2) (io), M17 I/O52 (1D6) (io), M18 I/O37 (1D5) (io), M19 I/O20 (1D4) (io), M20 I/O6 (1D3) (io), N17 I/O53 (1D11) (io), N18 I/O38 (1D10) (io), N19 I/O21 (1D8) (io), P18 I/O39 (1D14) (io), P19 I/O22 (1D9) (io), P20 I/O7 (1D7) (io), R17 I/O54 (1A7) (io), R18 I/O40 (1A12) (io), R19 I/O23 (1D13) (io), T18 I/O41 (1A4) (io), T19 I/O24 (1A13) (io), T20 I/O8 (1D12) (io), U8 I/O112 (2B12) (io), U9 I/O105 (2B7) (io), U10 I/O99 (2B2) (io), U11 I/O93 (2A2) (io), U12 I/O87 (2A7) (io), U13 I/O80 (2A12) (io), U15 I/O67 (1B7) (io), U18 I/O42 (1A2) (io), U19 I/O25 (1A8) (io), U20 I/O9 (1D15) (io), V7 I/O119 (2B13) (io), V8 I/O113 (2B9) (io), V9 I/O106 (2B5) (io), V10 I/O100 (2B1) (io), V11 I/O94 (2A1) (io), V12 I/O88 (2A5) (io), V13 I/O81 (2A9) (io), V14 I/O73 (2A13) (io), V15 I/O68 (1B12) (io), V16 I/O61 (1B4) (io), V17 I/O55 (1B3) (io), V19 I/O26 (1A3) (io), V20 I/O10 (1A11) (io), W5 I/O132 (2B15) (io), W6 I/O127 (2B11) (io), W7 I/O120 (2B10) (io), W8 I/O114 (2B6) (io), W9 I/O107 (2B3) (io), W10 I/O101 (2B0) (io), W11 I/O95 (2A0) (io), W12 I/O89 (2A3) (io), W13 I/O82 (2A6) (io), W14 I/O74 (2A10) (io), W15 I/O69 (2A11) (io), W16 I/O62 (2A15) (io), W17 I/O56 (1B11) (io), W18 I/O43 (1B8) (io), W19 I/O27 (1B2) (io), Y5 I/O133 (2B14) (io), Y7 I/O121 (2B8) (io), Y8 I/O115 (2B4) (io), Y13 I/O83 (2A4) (io), Y14 I/O75 (2A8) (io), Y16 I/O63 (2A14) (io), Y17 I/O57 (1B13) (io)
part B pins: A4 I/O134 (4B13) (io), A5 I/O128 (5B14) (io), A7 I/O116 (5B8) (io), A8 I/O108 (5B4) (io), A13 I/O76 (5A4) (io), A14 I/O70 (5A8) (io), A16 I/O58 (5A14) (io), B2 I/O164 (4B2) (io), B3 I/O148 (4B8) (io), B4 I/O135 (4B11) (io), B5 I/O129 (5B15) (io), B6 I/O122 (5B11) (io), B7 I/O117 (5B10) (io), B8 I/O109 (5B6) (io), B9 I/O102 (5B3) (io), B10 I/O96 (5B0) (io), B11 I/O90 (5A0) (io), B12 I/O84 (5A3) (io), B13 I/O77 (5A6) (io), B14 I/O71 (5A10) (io), B15 I/O64 (5A11) (io), B16 I/O59 (5A15) (io), C1 I/O181 (4A11) (io), C2 I/O165 (4A3) (io), C4 I/O136 (4B3) (io), C5 I/O130 (4B4) (io), C6 I/O123 (4B12) (io), C7 I/O118 (5B13) (io), C8 I/O110 (5B9) (io), C9 I/O103 (5B5) (io), C10 I/O97 (5B1) (io), C11 I/O91 (5A1) (io), C12 I/O85 (5A5) (io), C13 I/O78 (5A9) (io), C14 I/O72 (5A13) (io), D1 I/O182 (4D15) (io), D2 I/O166 (4A8) (io), D3 I/O149 (4A2) (io), D6 I/O124 (4B7) (io), D8 I/O111 (5B12) (io), D9 I/O104 (5B7) (io), D10 I/O98 (5B2) (io), D11 I/O92 (5A2) (io), D12 I/O86 (5A7) (io), D13 I/O79 (5A12) (io), E1 I/O183 (4D12) (io), E2 I/O167 (4A13) (io), E3 I/O150 (4A4) (io), F2 I/O168 (4D13) (io), F3 I/O151 (4A12) (io), F4 I/O137 (4A7) (io), G1 I/O184 (4D7) (io), G2 I/O169 (4D9) (io), G3 I/O152 (4D14) (io), H2 I/O170 (4D8) (io), H3 I/O153 (4D10) (io), H4 I/O138 (4D11) (io), J1 I/O185 (4D3) (io), J2 I/O171 (4D4) (io), J3 I/O154 (4D5) (io), J4 I/O139 (4D6) (io), K1 I/O186 (4D2) (io), K3 I/O155 (4D0) (io), K4 I/O140 (4D1) (io), L3 I/O156 (3D0) (io), L4 I/O141 (3D1) (io), M1 I/O187 (3D2) (io), M2 I/O172 (3D3) (io), M3 I/O157 (3D5) (io), M4 I/O142 (3D6) (io), N2 I/O173 (3D4) (io), N3 I/O158 (3D9) (io), N4 I/O143 (3D11) (io), P1 I/O188 (3D7) (io), P2 I/O174 (3D8) (io), P3 I/O159 (3D14) (io), R2 I/O175 (3D12) (io), R3 I/O160 (3A12) (io), R4 I/O144 (3A7) (io), T1 I/O189 (3D10) (io), T2 I/O176 (3A13) (io), T3 I/O161 (3A4) (io), U1 I/O190 (3D13) (io), U2 I/O177 (3A11) (io), U3 I/O162 (3A2) (io), U6 I/O125 (3B7) (io), V1 I/O191 (3D15) (io), V2 I/O178 (3A8) (io), V4 I/O145 (3B3) (io), V5 I/O131 (3B4) (io), V6 I/O126 (3B12) (io), W2 I/O179 (3A3) (io), W3 I/O163 (3B8) (io), W4 I/O146 (3B11) (io), Y2 I/O180 (3B2) (io), Y4 I/O147 (3B13) (io)
part C pins: A1 GND (power), A2 GND (power), A3 GND (power), A6 GND (power), A9 GND (power), A10 GND (power), A11 GND (power), A12 GND (power), A15 GND (power), A18 GND (power), A20 GND (power), B1 GND (power), B20 GND (power), C3 VCC (power), C18 VCC (power), D4 VCC (power), D5 VCC (power), D7 VCC (power), D14 VCC (power), D16 VCC (power), D17 VCC (power), E4 TDO (out), E17 TDI (in), F1 GND (power), F20 GND (power), G4 VCC (power), G17 VCC (power), H1 GND (power), H20 GND (power), K2 I3/CLK3 (in), K19 I0/CLK0 (in), K20 GND (power), L1 GND (power), L2 I2/CLK2 (in), L19 I1/CLK1 (in), N1 GND (power), N20 GND (power), P4 VCC (power), P17 VCC (power), R1 GND (power), R20 GND (power), T4 TMS (in), T17 TCK (in), U4 VCC (power), U5 VCC (power), U7 VCC (power), U14 VCC (power), U16 VCC (power), U17 VCC (power), V3 VCC (power), V18 VCC (power), W1 GND (power), W20 GND (power), Y1 GND (power), Y3 GND (power), Y6 GND (power), Y9 GND (power), Y10 GND (power), Y11 GND (power), Y12 GND (power), Y15 GND (power), Y18 GND (power), Y19 GND (power), Y20 GND (power)

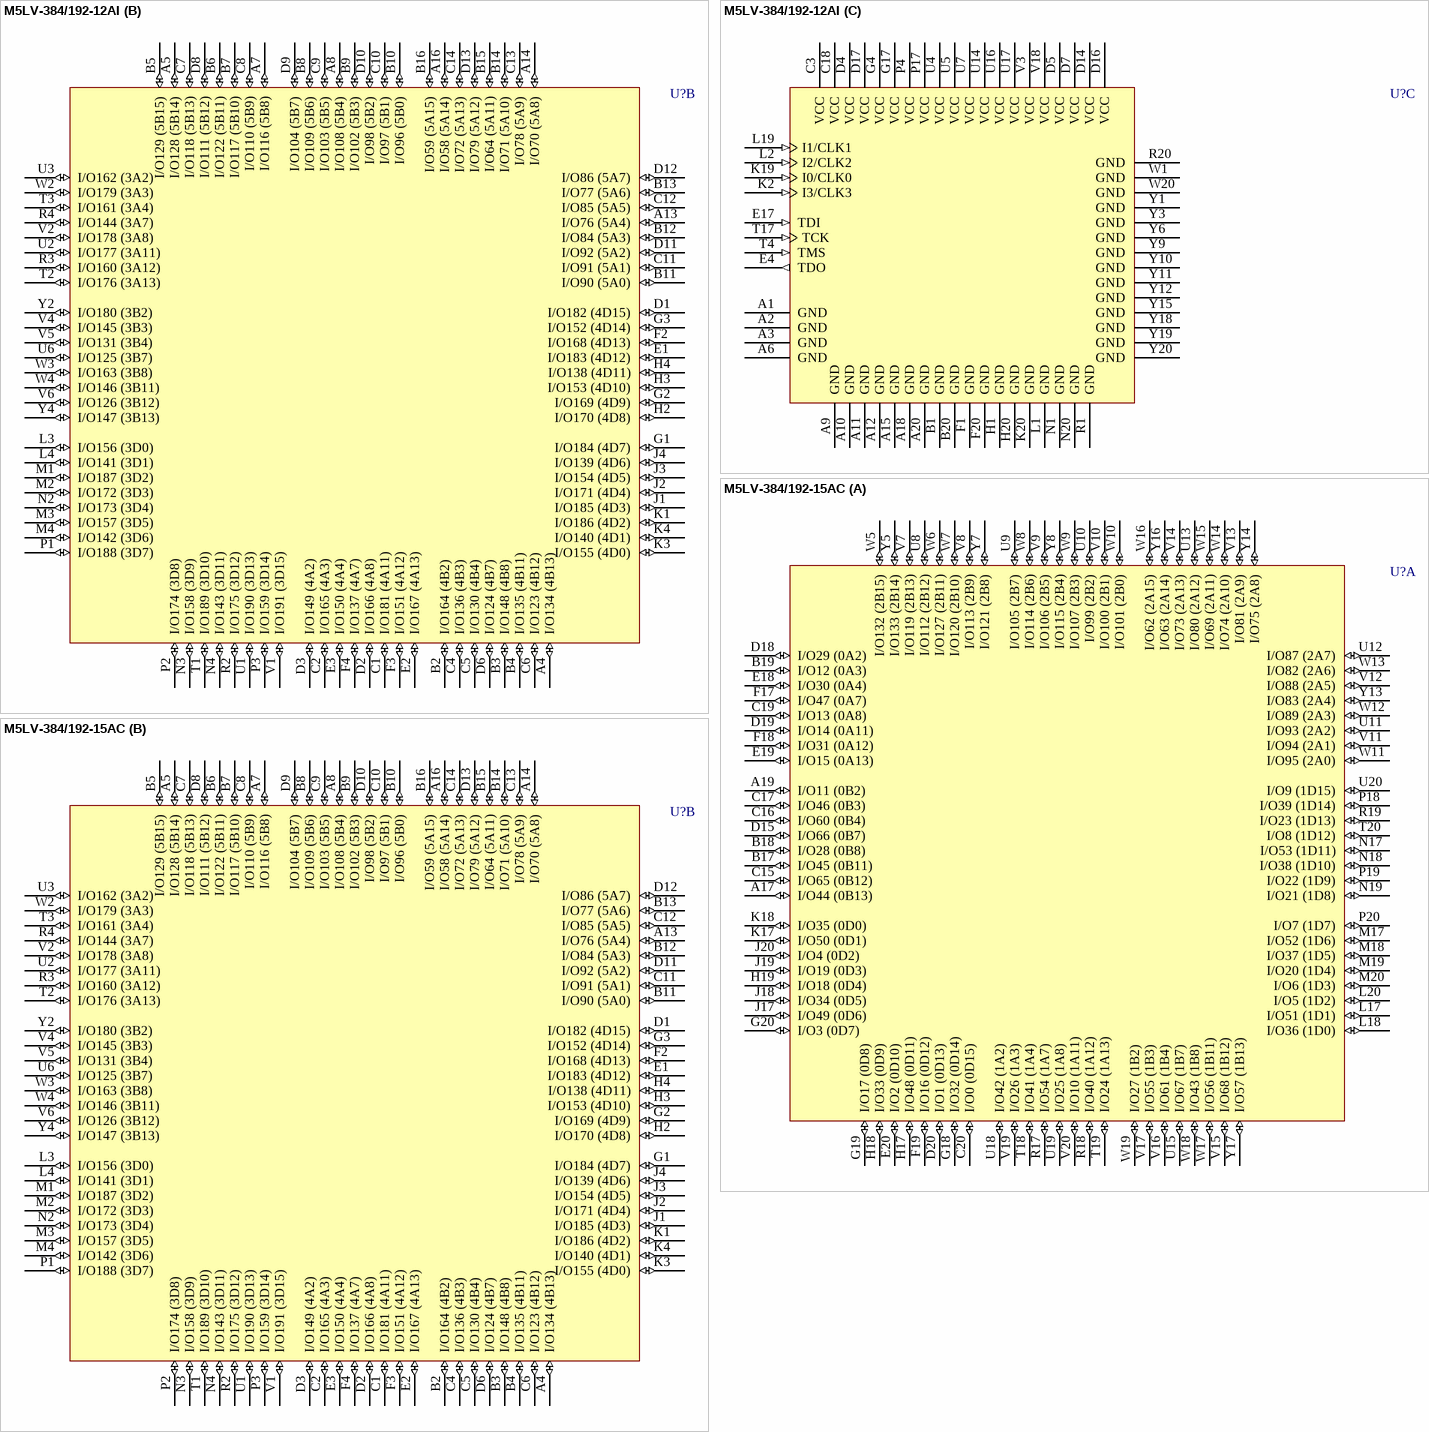
[diagram p255: symbols M5LV-384/192-12AI to M5LV-384/192-15AC]

## M5LV-384/192-12AI
designator U?
High-Density and High-I/O Complex PLD; Published: 23-Sep-2002; LatestRevisionDate: 13-Apr-2006; LatestRevisionNote: IPC-7351 Footprint Added.; DatasheetVersion: Sep-2000; PackageVersion: pkg_32, Aug-2005; PackageReference: SBGA256; Publisher: Altium Limited; PackageDescription: 256-Ball Super Ball Grid Array (SBGA256); ComponentLink1Description: Manufacturer Link; ComponentLink1URL: http://www.latticesemi.com/products/mature/index.cfm; ComponentLink2Description: Datasheet; ComponentLink2URL: http://www.latticesemi.com/lit/docs/datasheets/cpld/mach5.pdf
footprint SBGA256 (BGA, 256-Leads, Body 27x27mm, Pitch 1.27mm)
3D model M5LV-SBGA256 (256-Ball Super Ball Grid Array (SBGA256))
part A pins: A17 I/O44 (0B13) (io), A19 I/O11 (0B2) (io), B17 I/O45 (0B11) (io), B18 I/O28 (0B8) (io), B19 I/O12 (0A3) (io), C15 I/O65 (0B12) (io), C16 I/O60 (0B4) (io), C17 I/O46 (0B3) (io), C19 I/O13 (0A8) (io), C20 I/O0 (0D15) (io), D15 I/O66 (0B7) (io), D18 I/O29 (0A2) (io), D19 I/O14 (0A11) (io), D20 I/O1 (0D13) (io), E18 I/O30 (0A4) (io), E19 I/O15 (0A13) (io), E20 I/O2 (0D10) (io), F17 I/O47 (0A7) (io), F18 I/O31 (0A12) (io), F19 I/O16 (0D12) (io), G18 I/O32 (0D14) (io), G19 I/O17 (0D8) (io), G20 I/O3 (0D7) (io), H17 I/O48 (0D11) (io), H18 I/O33 (0D9) (io), H19 I/O18 (0D4) (io), J17 I/O49 (0D6) (io), J18 I/O34 (0D5) (io), J19 I/O19 (0D3) (io), J20 I/O4 (0D2) (io), K17 I/O50 (0D1) (io), K18 I/O35 (0D0) (io), L17 I/O51 (1D1) (io), L18 I/O36 (1D0) (io), L20 I/O5 (1D2) (io), M17 I/O52 (1D6) (io), M18 I/O37 (1D5) (io), M19 I/O20 (1D4) (io), M20 I/O6 (1D3) (io), N17 I/O53 (1D11) (io), N18 I/O38 (1D10) (io), N19 I/O21 (1D8) (io), P18 I/O39 (1D14) (io), P19 I/O22 (1D9) (io), P20 I/O7 (1D7) (io), R17 I/O54 (1A7) (io), R18 I/O40 (1A12) (io), R19 I/O23 (1D13) (io), T18 I/O41 (1A4) (io), T19 I/O24 (1A13) (io), T20 I/O8 (1D12) (io), U8 I/O112 (2B12) (io), U9 I/O105 (2B7) (io), U10 I/O99 (2B2) (io), U11 I/O93 (2A2) (io), U12 I/O87 (2A7) (io), U13 I/O80 (2A12) (io), U15 I/O67 (1B7) (io), U18 I/O42 (1A2) (io), U19 I/O25 (1A8) (io), U20 I/O9 (1D15) (io), V7 I/O119 (2B13) (io), V8 I/O113 (2B9) (io), V9 I/O106 (2B5) (io), V10 I/O100 (2B1) (io), V11 I/O94 (2A1) (io), V12 I/O88 (2A5) (io), V13 I/O81 (2A9) (io), V14 I/O73 (2A13) (io), V15 I/O68 (1B12) (io), V16 I/O61 (1B4) (io), V17 I/O55 (1B3) (io), V19 I/O26 (1A3) (io), V20 I/O10 (1A11) (io), W5 I/O132 (2B15) (io), W6 I/O127 (2B11) (io), W7 I/O120 (2B10) (io), W8 I/O114 (2B6) (io), W9 I/O107 (2B3) (io), W10 I/O101 (2B0) (io), W11 I/O95 (2A0) (io), W12 I/O89 (2A3) (io), W13 I/O82 (2A6) (io), W14 I/O74 (2A10) (io), W15 I/O69 (2A11) (io), W16 I/O62 (2A15) (io), W17 I/O56 (1B11) (io), W18 I/O43 (1B8) (io), W19 I/O27 (1B2) (io), Y5 I/O133 (2B14) (io), Y7 I/O121 (2B8) (io), Y8 I/O115 (2B4) (io), Y13 I/O83 (2A4) (io), Y14 I/O75 (2A8) (io), Y16 I/O63 (2A14) (io), Y17 I/O57 (1B13) (io)
part B pins: A4 I/O134 (4B13) (io), A5 I/O128 (5B14) (io), A7 I/O116 (5B8) (io), A8 I/O108 (5B4) (io), A13 I/O76 (5A4) (io), A14 I/O70 (5A8) (io), A16 I/O58 (5A14) (io), B2 I/O164 (4B2) (io), B3 I/O148 (4B8) (io), B4 I/O135 (4B11) (io), B5 I/O129 (5B15) (io), B6 I/O122 (5B11) (io), B7 I/O117 (5B10) (io), B8 I/O109 (5B6) (io), B9 I/O102 (5B3) (io), B10 I/O96 (5B0) (io), B11 I/O90 (5A0) (io), B12 I/O84 (5A3) (io), B13 I/O77 (5A6) (io), B14 I/O71 (5A10) (io), B15 I/O64 (5A11) (io), B16 I/O59 (5A15) (io), C1 I/O181 (4A11) (io), C2 I/O165 (4A3) (io), C4 I/O136 (4B3) (io), C5 I/O130 (4B4) (io), C6 I/O123 (4B12) (io), C7 I/O118 (5B13) (io), C8 I/O110 (5B9) (io), C9 I/O103 (5B5) (io), C10 I/O97 (5B1) (io), C11 I/O91 (5A1) (io), C12 I/O85 (5A5) (io), C13 I/O78 (5A9) (io), C14 I/O72 (5A13) (io), D1 I/O182 (4D15) (io), D2 I/O166 (4A8) (io), D3 I/O149 (4A2) (io), D6 I/O124 (4B7) (io), D8 I/O111 (5B12) (io), D9 I/O104 (5B7) (io), D10 I/O98 (5B2) (io), D11 I/O92 (5A2) (io), D12 I/O86 (5A7) (io), D13 I/O79 (5A12) (io), E1 I/O183 (4D12) (io), E2 I/O167 (4A13) (io), E3 I/O150 (4A4) (io), F2 I/O168 (4D13) (io), F3 I/O151 (4A12) (io), F4 I/O137 (4A7) (io), G1 I/O184 (4D7) (io), G2 I/O169 (4D9) (io), G3 I/O152 (4D14) (io), H2 I/O170 (4D8) (io), H3 I/O153 (4D10) (io), H4 I/O138 (4D11) (io), J1 I/O185 (4D3) (io), J2 I/O171 (4D4) (io), J3 I/O154 (4D5) (io), J4 I/O139 (4D6) (io), K1 I/O186 (4D2) (io), K3 I/O155 (4D0) (io), K4 I/O140 (4D1) (io), L3 I/O156 (3D0) (io), L4 I/O141 (3D1) (io), M1 I/O187 (3D2) (io), M2 I/O172 (3D3) (io), M3 I/O157 (3D5) (io), M4 I/O142 (3D6) (io), N2 I/O173 (3D4) (io), N3 I/O158 (3D9) (io), N4 I/O143 (3D11) (io), P1 I/O188 (3D7) (io), P2 I/O174 (3D8) (io), P3 I/O159 (3D14) (io), R2 I/O175 (3D12) (io), R3 I/O160 (3A12) (io), R4 I/O144 (3A7) (io), T1 I/O189 (3D10) (io), T2 I/O176 (3A13) (io), T3 I/O161 (3A4) (io), U1 I/O190 (3D13) (io), U2 I/O177 (3A11) (io), U3 I/O162 (3A2) (io), U6 I/O125 (3B7) (io), V1 I/O191 (3D15) (io), V2 I/O178 (3A8) (io), V4 I/O145 (3B3) (io), V5 I/O131 (3B4) (io), V6 I/O126 (3B12) (io), W2 I/O179 (3A3) (io), W3 I/O163 (3B8) (io), W4 I/O146 (3B11) (io), Y2 I/O180 (3B2) (io), Y4 I/O147 (3B13) (io)
part C pins: A1 GND (power), A2 GND (power), A3 GND (power), A6 GND (power), A9 GND (power), A10 GND (power), A11 GND (power), A12 GND (power), A15 GND (power), A18 GND (power), A20 GND (power), B1 GND (power), B20 GND (power), C3 VCC (power), C18 VCC (power), D4 VCC (power), D5 VCC (power), D7 VCC (power), D14 VCC (power), D16 VCC (power), D17 VCC (power), E4 TDO (out), E17 TDI (in), F1 GND (power), F20 GND (power), G4 VCC (power), G17 VCC (power), H1 GND (power), H20 GND (power), K2 I3/CLK3 (in), K19 I0/CLK0 (in), K20 GND (power), L1 GND (power), L2 I2/CLK2 (in), L19 I1/CLK1 (in), N1 GND (power), N20 GND (power), P4 VCC (power), P17 VCC (power), R1 GND (power), R20 GND (power), T4 TMS (in), T17 TCK (in), U4 VCC (power), U5 VCC (power), U7 VCC (power), U14 VCC (power), U16 VCC (power), U17 VCC (power), V3 VCC (power), V18 VCC (power), W1 GND (power), W20 GND (power), Y1 GND (power), Y3 GND (power), Y6 GND (power), Y9 GND (power), Y10 GND (power), Y11 GND (power), Y12 GND (power), Y15 GND (power), Y18 GND (power), Y19 GND (power), Y20 GND (power)

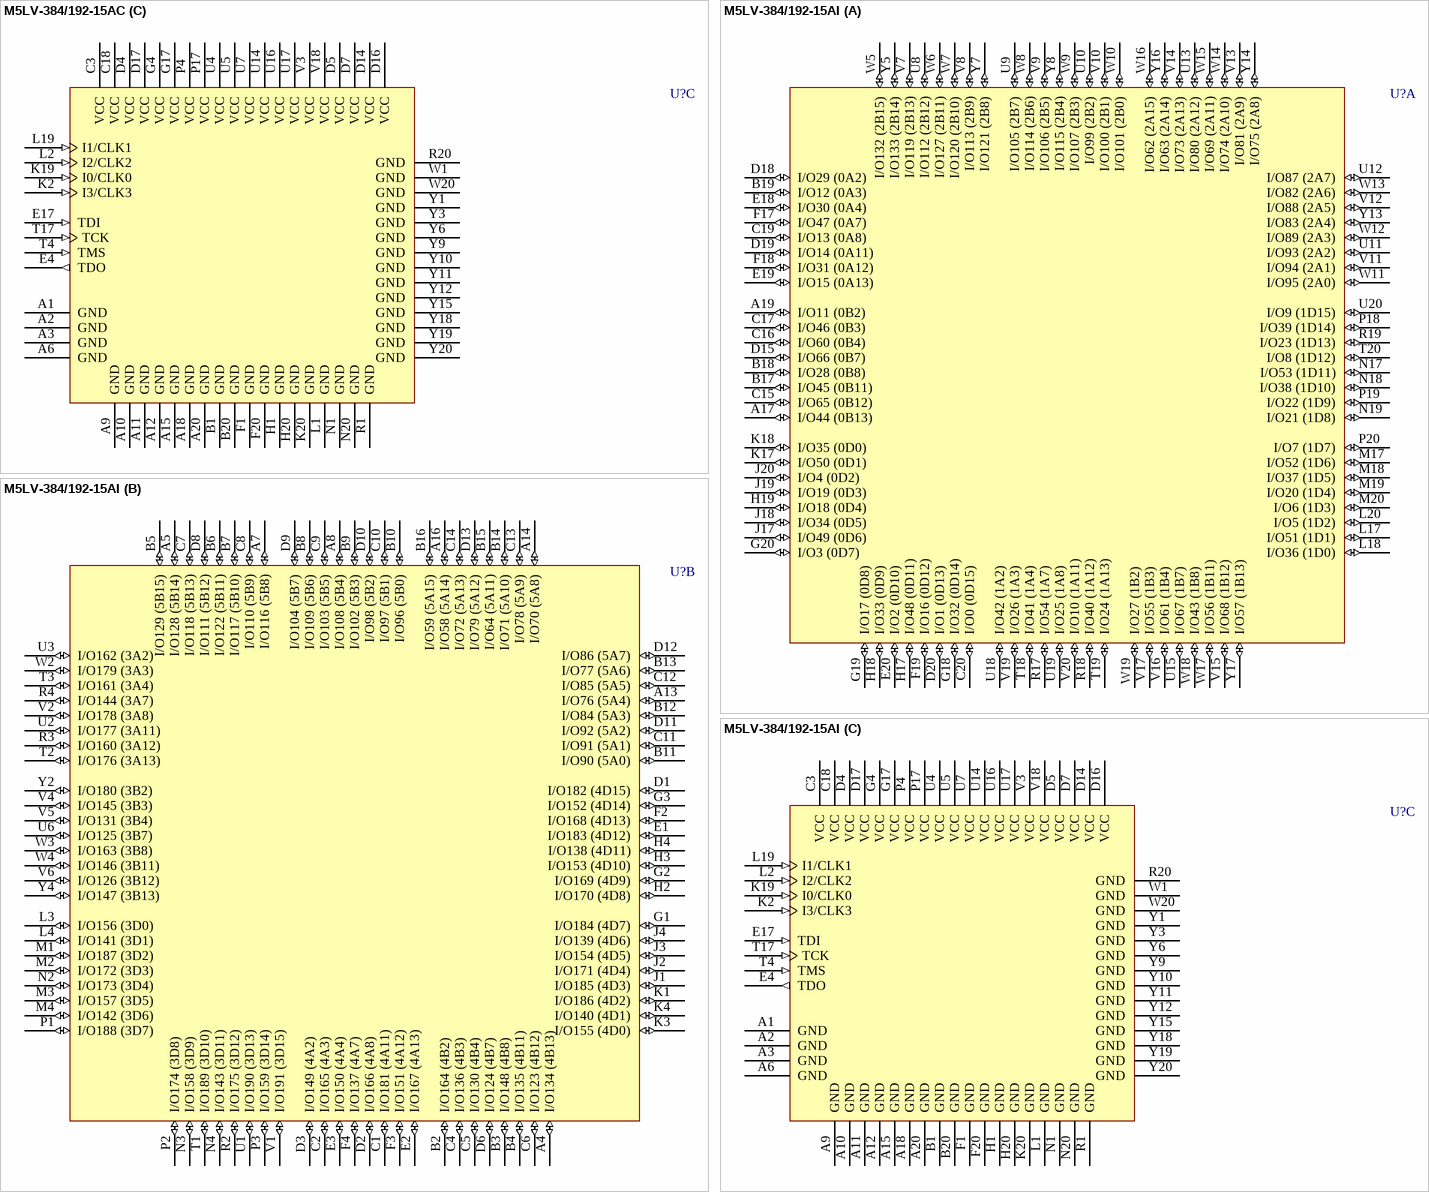
[diagram p256: symbols M5LV-384/192-15AC to M5LV-384/192-15AI]

## M5LV-384/192-15AC
designator U?
High-Density and High-I/O Complex PLD; Published: 23-Sep-2002; LatestRevisionDate: 13-Apr-2006; LatestRevisionNote: IPC-7351 Footprint Added.; DatasheetVersion: Sep-2000; PackageVersion: pkg_32, Aug-2005; PackageReference: SBGA256; Publisher: Altium Limited; PackageDescription: 256-Ball Super Ball Grid Array (SBGA256); ComponentLink1Description: Manufacturer Link; ComponentLink1URL: http://www.latticesemi.com/products/mature/index.cfm; ComponentLink2Description: Datasheet; ComponentLink2URL: http://www.latticesemi.com/lit/docs/datasheets/cpld/mach5.pdf
footprint SBGA256 (BGA, 256-Leads, Body 27x27mm, Pitch 1.27mm)
3D model M5LV-SBGA256 (256-Ball Super Ball Grid Array (SBGA256))
part A pins: A17 I/O44 (0B13) (io), A19 I/O11 (0B2) (io), B17 I/O45 (0B11) (io), B18 I/O28 (0B8) (io), B19 I/O12 (0A3) (io), C15 I/O65 (0B12) (io), C16 I/O60 (0B4) (io), C17 I/O46 (0B3) (io), C19 I/O13 (0A8) (io), C20 I/O0 (0D15) (io), D15 I/O66 (0B7) (io), D18 I/O29 (0A2) (io), D19 I/O14 (0A11) (io), D20 I/O1 (0D13) (io), E18 I/O30 (0A4) (io), E19 I/O15 (0A13) (io), E20 I/O2 (0D10) (io), F17 I/O47 (0A7) (io), F18 I/O31 (0A12) (io), F19 I/O16 (0D12) (io), G18 I/O32 (0D14) (io), G19 I/O17 (0D8) (io), G20 I/O3 (0D7) (io), H17 I/O48 (0D11) (io), H18 I/O33 (0D9) (io), H19 I/O18 (0D4) (io), J17 I/O49 (0D6) (io), J18 I/O34 (0D5) (io), J19 I/O19 (0D3) (io), J20 I/O4 (0D2) (io), K17 I/O50 (0D1) (io), K18 I/O35 (0D0) (io), L17 I/O51 (1D1) (io), L18 I/O36 (1D0) (io), L20 I/O5 (1D2) (io), M17 I/O52 (1D6) (io), M18 I/O37 (1D5) (io), M19 I/O20 (1D4) (io), M20 I/O6 (1D3) (io), N17 I/O53 (1D11) (io), N18 I/O38 (1D10) (io), N19 I/O21 (1D8) (io), P18 I/O39 (1D14) (io), P19 I/O22 (1D9) (io), P20 I/O7 (1D7) (io), R17 I/O54 (1A7) (io), R18 I/O40 (1A12) (io), R19 I/O23 (1D13) (io), T18 I/O41 (1A4) (io), T19 I/O24 (1A13) (io), T20 I/O8 (1D12) (io), U8 I/O112 (2B12) (io), U9 I/O105 (2B7) (io), U10 I/O99 (2B2) (io), U11 I/O93 (2A2) (io), U12 I/O87 (2A7) (io), U13 I/O80 (2A12) (io), U15 I/O67 (1B7) (io), U18 I/O42 (1A2) (io), U19 I/O25 (1A8) (io), U20 I/O9 (1D15) (io), V7 I/O119 (2B13) (io), V8 I/O113 (2B9) (io), V9 I/O106 (2B5) (io), V10 I/O100 (2B1) (io), V11 I/O94 (2A1) (io), V12 I/O88 (2A5) (io), V13 I/O81 (2A9) (io), V14 I/O73 (2A13) (io), V15 I/O68 (1B12) (io), V16 I/O61 (1B4) (io), V17 I/O55 (1B3) (io), V19 I/O26 (1A3) (io), V20 I/O10 (1A11) (io), W5 I/O132 (2B15) (io), W6 I/O127 (2B11) (io), W7 I/O120 (2B10) (io), W8 I/O114 (2B6) (io), W9 I/O107 (2B3) (io), W10 I/O101 (2B0) (io), W11 I/O95 (2A0) (io), W12 I/O89 (2A3) (io), W13 I/O82 (2A6) (io), W14 I/O74 (2A10) (io), W15 I/O69 (2A11) (io), W16 I/O62 (2A15) (io), W17 I/O56 (1B11) (io), W18 I/O43 (1B8) (io), W19 I/O27 (1B2) (io), Y5 I/O133 (2B14) (io), Y7 I/O121 (2B8) (io), Y8 I/O115 (2B4) (io), Y13 I/O83 (2A4) (io), Y14 I/O75 (2A8) (io), Y16 I/O63 (2A14) (io), Y17 I/O57 (1B13) (io)
part B pins: A4 I/O134 (4B13) (io), A5 I/O128 (5B14) (io), A7 I/O116 (5B8) (io), A8 I/O108 (5B4) (io), A13 I/O76 (5A4) (io), A14 I/O70 (5A8) (io), A16 I/O58 (5A14) (io), B2 I/O164 (4B2) (io), B3 I/O148 (4B8) (io), B4 I/O135 (4B11) (io), B5 I/O129 (5B15) (io), B6 I/O122 (5B11) (io), B7 I/O117 (5B10) (io), B8 I/O109 (5B6) (io), B9 I/O102 (5B3) (io), B10 I/O96 (5B0) (io), B11 I/O90 (5A0) (io), B12 I/O84 (5A3) (io), B13 I/O77 (5A6) (io), B14 I/O71 (5A10) (io), B15 I/O64 (5A11) (io), B16 I/O59 (5A15) (io), C1 I/O181 (4A11) (io), C2 I/O165 (4A3) (io), C4 I/O136 (4B3) (io), C5 I/O130 (4B4) (io), C6 I/O123 (4B12) (io), C7 I/O118 (5B13) (io), C8 I/O110 (5B9) (io), C9 I/O103 (5B5) (io), C10 I/O97 (5B1) (io), C11 I/O91 (5A1) (io), C12 I/O85 (5A5) (io), C13 I/O78 (5A9) (io), C14 I/O72 (5A13) (io), D1 I/O182 (4D15) (io), D2 I/O166 (4A8) (io), D3 I/O149 (4A2) (io), D6 I/O124 (4B7) (io), D8 I/O111 (5B12) (io), D9 I/O104 (5B7) (io), D10 I/O98 (5B2) (io), D11 I/O92 (5A2) (io), D12 I/O86 (5A7) (io), D13 I/O79 (5A12) (io), E1 I/O183 (4D12) (io), E2 I/O167 (4A13) (io), E3 I/O150 (4A4) (io), F2 I/O168 (4D13) (io), F3 I/O151 (4A12) (io), F4 I/O137 (4A7) (io), G1 I/O184 (4D7) (io), G2 I/O169 (4D9) (io), G3 I/O152 (4D14) (io), H2 I/O170 (4D8) (io), H3 I/O153 (4D10) (io), H4 I/O138 (4D11) (io), J1 I/O185 (4D3) (io), J2 I/O171 (4D4) (io), J3 I/O154 (4D5) (io), J4 I/O139 (4D6) (io), K1 I/O186 (4D2) (io), K3 I/O155 (4D0) (io), K4 I/O140 (4D1) (io), L3 I/O156 (3D0) (io), L4 I/O141 (3D1) (io), M1 I/O187 (3D2) (io), M2 I/O172 (3D3) (io), M3 I/O157 (3D5) (io), M4 I/O142 (3D6) (io), N2 I/O173 (3D4) (io), N3 I/O158 (3D9) (io), N4 I/O143 (3D11) (io), P1 I/O188 (3D7) (io), P2 I/O174 (3D8) (io), P3 I/O159 (3D14) (io), R2 I/O175 (3D12) (io), R3 I/O160 (3A12) (io), R4 I/O144 (3A7) (io), T1 I/O189 (3D10) (io), T2 I/O176 (3A13) (io), T3 I/O161 (3A4) (io), U1 I/O190 (3D13) (io), U2 I/O177 (3A11) (io), U3 I/O162 (3A2) (io), U6 I/O125 (3B7) (io), V1 I/O191 (3D15) (io), V2 I/O178 (3A8) (io), V4 I/O145 (3B3) (io), V5 I/O131 (3B4) (io), V6 I/O126 (3B12) (io), W2 I/O179 (3A3) (io), W3 I/O163 (3B8) (io), W4 I/O146 (3B11) (io), Y2 I/O180 (3B2) (io), Y4 I/O147 (3B13) (io)
part C pins: A1 GND (power), A2 GND (power), A3 GND (power), A6 GND (power), A9 GND (power), A10 GND (power), A11 GND (power), A12 GND (power), A15 GND (power), A18 GND (power), A20 GND (power), B1 GND (power), B20 GND (power), C3 VCC (power), C18 VCC (power), D4 VCC (power), D5 VCC (power), D7 VCC (power), D14 VCC (power), D16 VCC (power), D17 VCC (power), E4 TDO (out), E17 TDI (in), F1 GND (power), F20 GND (power), G4 VCC (power), G17 VCC (power), H1 GND (power), H20 GND (power), K2 I3/CLK3 (in), K19 I0/CLK0 (in), K20 GND (power), L1 GND (power), L2 I2/CLK2 (in), L19 I1/CLK1 (in), N1 GND (power), N20 GND (power), P4 VCC (power), P17 VCC (power), R1 GND (power), R20 GND (power), T4 TMS (in), T17 TCK (in), U4 VCC (power), U5 VCC (power), U7 VCC (power), U14 VCC (power), U16 VCC (power), U17 VCC (power), V3 VCC (power), V18 VCC (power), W1 GND (power), W20 GND (power), Y1 GND (power), Y3 GND (power), Y6 GND (power), Y9 GND (power), Y10 GND (power), Y11 GND (power), Y12 GND (power), Y15 GND (power), Y18 GND (power), Y19 GND (power), Y20 GND (power)

## M5LV-384/192-15AI
designator U?
High-Density and High-I/O Complex PLD; Published: 23-Sep-2002; LatestRevisionDate: 13-Apr-2006; LatestRevisionNote: IPC-7351 Footprint Added.; DatasheetVersion: Sep-2000; PackageVersion: pkg_32, Aug-2005; PackageReference: SBGA256; Publisher: Altium Limited; PackageDescription: 256-Ball Super Ball Grid Array (SBGA256); ComponentLink1Description: Manufacturer Link; ComponentLink1URL: http://www.latticesemi.com/products/mature/index.cfm; ComponentLink2Description: Datasheet; ComponentLink2URL: http://www.latticesemi.com/lit/docs/datasheets/cpld/mach5.pdf
footprint SBGA256 (BGA, 256-Leads, Body 27x27mm, Pitch 1.27mm)
3D model M5LV-SBGA256 (256-Ball Super Ball Grid Array (SBGA256))
part A pins: A17 I/O44 (0B13) (io), A19 I/O11 (0B2) (io), B17 I/O45 (0B11) (io), B18 I/O28 (0B8) (io), B19 I/O12 (0A3) (io), C15 I/O65 (0B12) (io), C16 I/O60 (0B4) (io), C17 I/O46 (0B3) (io), C19 I/O13 (0A8) (io), C20 I/O0 (0D15) (io), D15 I/O66 (0B7) (io), D18 I/O29 (0A2) (io), D19 I/O14 (0A11) (io), D20 I/O1 (0D13) (io), E18 I/O30 (0A4) (io), E19 I/O15 (0A13) (io), E20 I/O2 (0D10) (io), F17 I/O47 (0A7) (io), F18 I/O31 (0A12) (io), F19 I/O16 (0D12) (io), G18 I/O32 (0D14) (io), G19 I/O17 (0D8) (io), G20 I/O3 (0D7) (io), H17 I/O48 (0D11) (io), H18 I/O33 (0D9) (io), H19 I/O18 (0D4) (io), J17 I/O49 (0D6) (io), J18 I/O34 (0D5) (io), J19 I/O19 (0D3) (io), J20 I/O4 (0D2) (io), K17 I/O50 (0D1) (io), K18 I/O35 (0D0) (io), L17 I/O51 (1D1) (io), L18 I/O36 (1D0) (io), L20 I/O5 (1D2) (io), M17 I/O52 (1D6) (io), M18 I/O37 (1D5) (io), M19 I/O20 (1D4) (io), M20 I/O6 (1D3) (io), N17 I/O53 (1D11) (io), N18 I/O38 (1D10) (io), N19 I/O21 (1D8) (io), P18 I/O39 (1D14) (io), P19 I/O22 (1D9) (io), P20 I/O7 (1D7) (io), R17 I/O54 (1A7) (io), R18 I/O40 (1A12) (io), R19 I/O23 (1D13) (io), T18 I/O41 (1A4) (io), T19 I/O24 (1A13) (io), T20 I/O8 (1D12) (io), U8 I/O112 (2B12) (io), U9 I/O105 (2B7) (io), U10 I/O99 (2B2) (io), U11 I/O93 (2A2) (io), U12 I/O87 (2A7) (io), U13 I/O80 (2A12) (io), U15 I/O67 (1B7) (io), U18 I/O42 (1A2) (io), U19 I/O25 (1A8) (io), U20 I/O9 (1D15) (io), V7 I/O119 (2B13) (io), V8 I/O113 (2B9) (io), V9 I/O106 (2B5) (io), V10 I/O100 (2B1) (io), V11 I/O94 (2A1) (io), V12 I/O88 (2A5) (io), V13 I/O81 (2A9) (io), V14 I/O73 (2A13) (io), V15 I/O68 (1B12) (io), V16 I/O61 (1B4) (io), V17 I/O55 (1B3) (io), V19 I/O26 (1A3) (io), V20 I/O10 (1A11) (io), W5 I/O132 (2B15) (io), W6 I/O127 (2B11) (io), W7 I/O120 (2B10) (io), W8 I/O114 (2B6) (io), W9 I/O107 (2B3) (io), W10 I/O101 (2B0) (io), W11 I/O95 (2A0) (io), W12 I/O89 (2A3) (io), W13 I/O82 (2A6) (io), W14 I/O74 (2A10) (io), W15 I/O69 (2A11) (io), W16 I/O62 (2A15) (io), W17 I/O56 (1B11) (io), W18 I/O43 (1B8) (io), W19 I/O27 (1B2) (io), Y5 I/O133 (2B14) (io), Y7 I/O121 (2B8) (io), Y8 I/O115 (2B4) (io), Y13 I/O83 (2A4) (io), Y14 I/O75 (2A8) (io), Y16 I/O63 (2A14) (io), Y17 I/O57 (1B13) (io)
part B pins: A4 I/O134 (4B13) (io), A5 I/O128 (5B14) (io), A7 I/O116 (5B8) (io), A8 I/O108 (5B4) (io), A13 I/O76 (5A4) (io), A14 I/O70 (5A8) (io), A16 I/O58 (5A14) (io), B2 I/O164 (4B2) (io), B3 I/O148 (4B8) (io), B4 I/O135 (4B11) (io), B5 I/O129 (5B15) (io), B6 I/O122 (5B11) (io), B7 I/O117 (5B10) (io), B8 I/O109 (5B6) (io), B9 I/O102 (5B3) (io), B10 I/O96 (5B0) (io), B11 I/O90 (5A0) (io), B12 I/O84 (5A3) (io), B13 I/O77 (5A6) (io), B14 I/O71 (5A10) (io), B15 I/O64 (5A11) (io), B16 I/O59 (5A15) (io), C1 I/O181 (4A11) (io), C2 I/O165 (4A3) (io), C4 I/O136 (4B3) (io), C5 I/O130 (4B4) (io), C6 I/O123 (4B12) (io), C7 I/O118 (5B13) (io), C8 I/O110 (5B9) (io), C9 I/O103 (5B5) (io), C10 I/O97 (5B1) (io), C11 I/O91 (5A1) (io), C12 I/O85 (5A5) (io), C13 I/O78 (5A9) (io), C14 I/O72 (5A13) (io), D1 I/O182 (4D15) (io), D2 I/O166 (4A8) (io), D3 I/O149 (4A2) (io), D6 I/O124 (4B7) (io), D8 I/O111 (5B12) (io), D9 I/O104 (5B7) (io), D10 I/O98 (5B2) (io), D11 I/O92 (5A2) (io), D12 I/O86 (5A7) (io), D13 I/O79 (5A12) (io), E1 I/O183 (4D12) (io), E2 I/O167 (4A13) (io), E3 I/O150 (4A4) (io), F2 I/O168 (4D13) (io), F3 I/O151 (4A12) (io), F4 I/O137 (4A7) (io), G1 I/O184 (4D7) (io), G2 I/O169 (4D9) (io), G3 I/O152 (4D14) (io), H2 I/O170 (4D8) (io), H3 I/O153 (4D10) (io), H4 I/O138 (4D11) (io), J1 I/O185 (4D3) (io), J2 I/O171 (4D4) (io), J3 I/O154 (4D5) (io), J4 I/O139 (4D6) (io), K1 I/O186 (4D2) (io), K3 I/O155 (4D0) (io), K4 I/O140 (4D1) (io), L3 I/O156 (3D0) (io), L4 I/O141 (3D1) (io), M1 I/O187 (3D2) (io), M2 I/O172 (3D3) (io), M3 I/O157 (3D5) (io), M4 I/O142 (3D6) (io), N2 I/O173 (3D4) (io), N3 I/O158 (3D9) (io), N4 I/O143 (3D11) (io), P1 I/O188 (3D7) (io), P2 I/O174 (3D8) (io), P3 I/O159 (3D14) (io), R2 I/O175 (3D12) (io), R3 I/O160 (3A12) (io), R4 I/O144 (3A7) (io), T1 I/O189 (3D10) (io), T2 I/O176 (3A13) (io), T3 I/O161 (3A4) (io), U1 I/O190 (3D13) (io), U2 I/O177 (3A11) (io), U3 I/O162 (3A2) (io), U6 I/O125 (3B7) (io), V1 I/O191 (3D15) (io), V2 I/O178 (3A8) (io), V4 I/O145 (3B3) (io), V5 I/O131 (3B4) (io), V6 I/O126 (3B12) (io), W2 I/O179 (3A3) (io), W3 I/O163 (3B8) (io), W4 I/O146 (3B11) (io), Y2 I/O180 (3B2) (io), Y4 I/O147 (3B13) (io)
part C pins: A1 GND (power), A2 GND (power), A3 GND (power), A6 GND (power), A9 GND (power), A10 GND (power), A11 GND (power), A12 GND (power), A15 GND (power), A18 GND (power), A20 GND (power), B1 GND (power), B20 GND (power), C3 VCC (power), C18 VCC (power), D4 VCC (power), D5 VCC (power), D7 VCC (power), D14 VCC (power), D16 VCC (power), D17 VCC (power), E4 TDO (out), E17 TDI (in), F1 GND (power), F20 GND (power), G4 VCC (power), G17 VCC (power), H1 GND (power), H20 GND (power), K2 I3/CLK3 (in), K19 I0/CLK0 (in), K20 GND (power), L1 GND (power), L2 I2/CLK2 (in), L19 I1/CLK1 (in), N1 GND (power), N20 GND (power), P4 VCC (power), P17 VCC (power), R1 GND (power), R20 GND (power), T4 TMS (in), T17 TCK (in), U4 VCC (power), U5 VCC (power), U7 VCC (power), U14 VCC (power), U16 VCC (power), U17 VCC (power), V3 VCC (power), V18 VCC (power), W1 GND (power), W20 GND (power), Y1 GND (power), Y3 GND (power), Y6 GND (power), Y9 GND (power), Y10 GND (power), Y11 GND (power), Y12 GND (power), Y15 GND (power), Y18 GND (power), Y19 GND (power), Y20 GND (power)

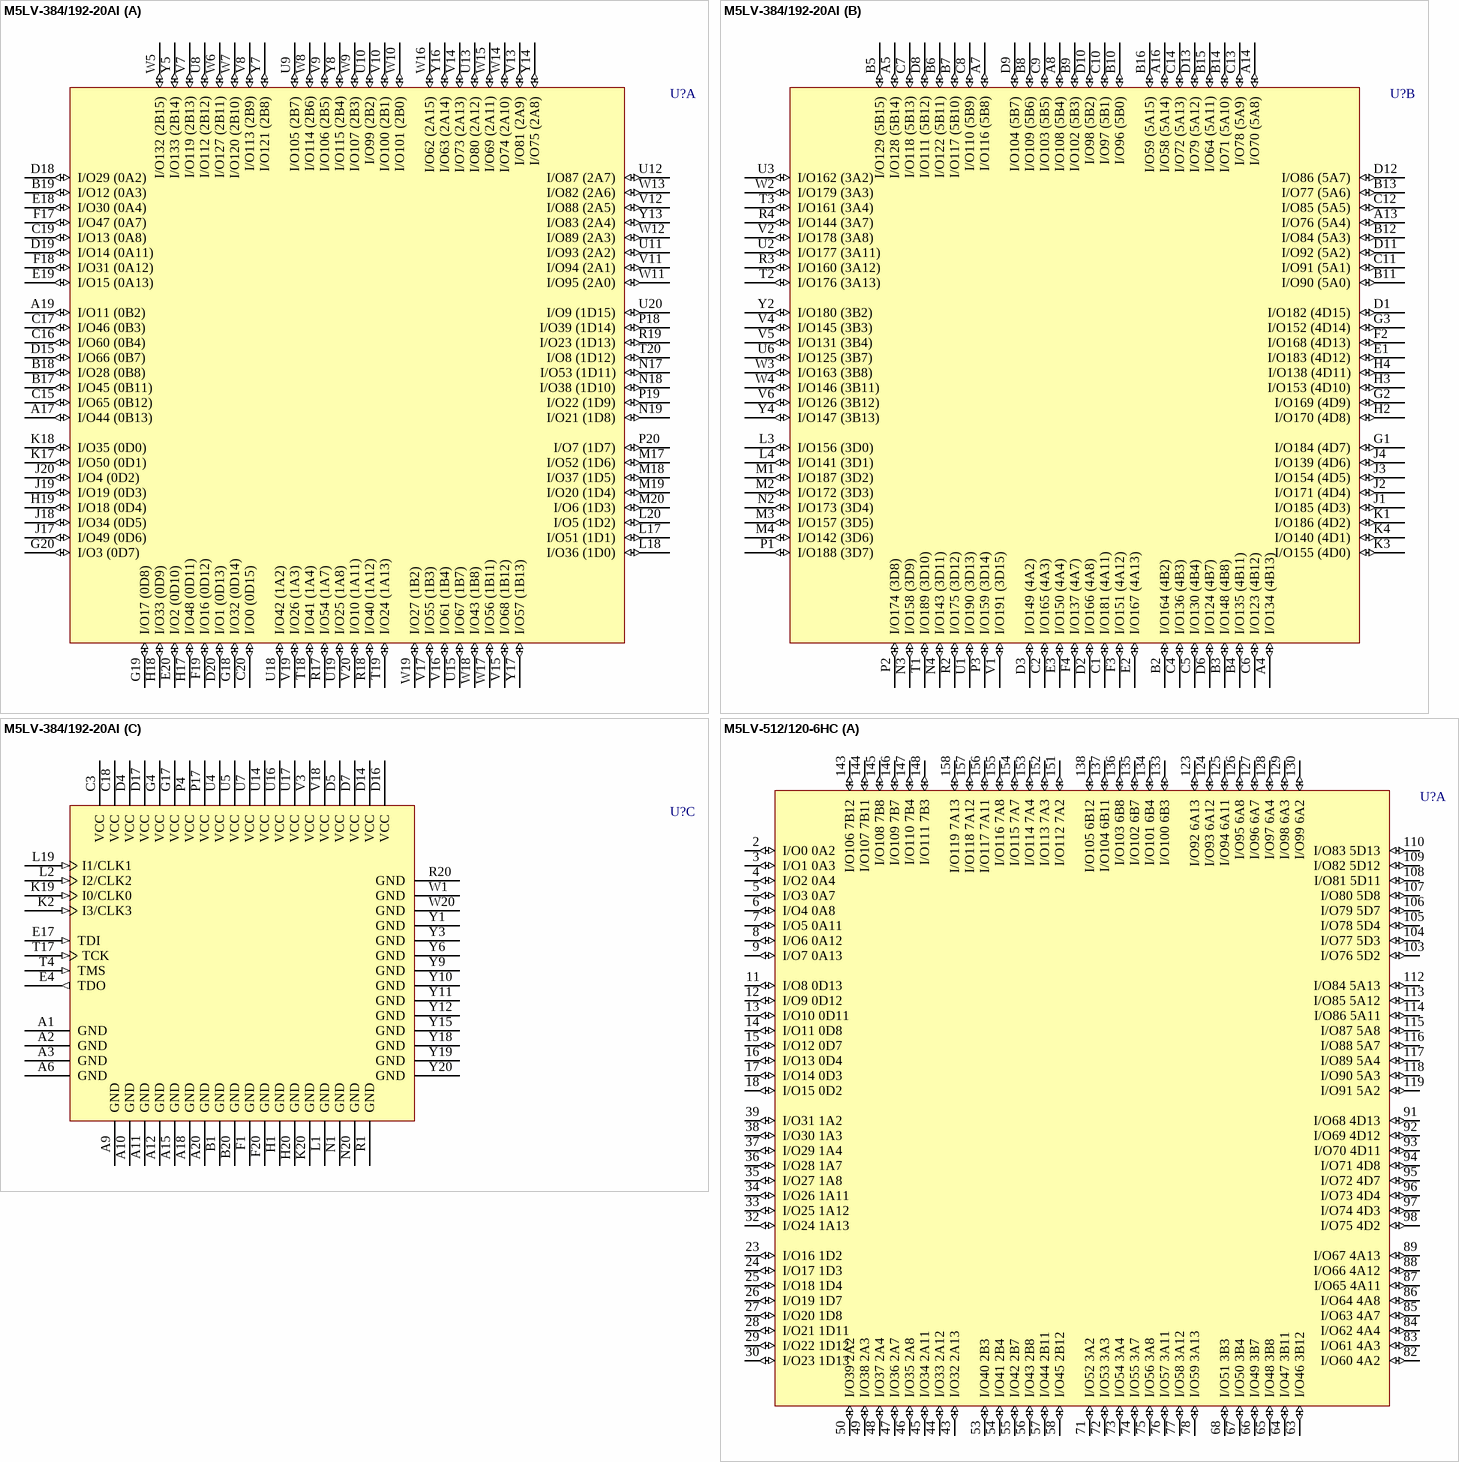
[diagram p257: symbols M5LV-384/192-20AI to M5LV-512/120-6HC]

## M5LV-384/192-20AI
designator U?
High-Density and High-I/O Complex PLD; Published: 23-Sep-2002; LatestRevisionDate: 13-Apr-2006; LatestRevisionNote: IPC-7351 Footprint Added.; DatasheetVersion: Sep-2000; PackageVersion: pkg_32, Aug-2005; PackageReference: SBGA256; Publisher: Altium Limited; PackageDescription: 256-Ball Super Ball Grid Array (SBGA256); ComponentLink1Description: Manufacturer Link; ComponentLink1URL: http://www.latticesemi.com/products/mature/index.cfm; ComponentLink2Description: Datasheet; ComponentLink2URL: http://www.latticesemi.com/lit/docs/datasheets/cpld/mach5.pdf
footprint SBGA256 (BGA, 256-Leads, Body 27x27mm, Pitch 1.27mm)
3D model M5LV-SBGA256 (256-Ball Super Ball Grid Array (SBGA256))
part A pins: A17 I/O44 (0B13) (io), A19 I/O11 (0B2) (io), B17 I/O45 (0B11) (io), B18 I/O28 (0B8) (io), B19 I/O12 (0A3) (io), C15 I/O65 (0B12) (io), C16 I/O60 (0B4) (io), C17 I/O46 (0B3) (io), C19 I/O13 (0A8) (io), C20 I/O0 (0D15) (io), D15 I/O66 (0B7) (io), D18 I/O29 (0A2) (io), D19 I/O14 (0A11) (io), D20 I/O1 (0D13) (io), E18 I/O30 (0A4) (io), E19 I/O15 (0A13) (io), E20 I/O2 (0D10) (io), F17 I/O47 (0A7) (io), F18 I/O31 (0A12) (io), F19 I/O16 (0D12) (io), G18 I/O32 (0D14) (io), G19 I/O17 (0D8) (io), G20 I/O3 (0D7) (io), H17 I/O48 (0D11) (io), H18 I/O33 (0D9) (io), H19 I/O18 (0D4) (io), J17 I/O49 (0D6) (io), J18 I/O34 (0D5) (io), J19 I/O19 (0D3) (io), J20 I/O4 (0D2) (io), K17 I/O50 (0D1) (io), K18 I/O35 (0D0) (io), L17 I/O51 (1D1) (io), L18 I/O36 (1D0) (io), L20 I/O5 (1D2) (io), M17 I/O52 (1D6) (io), M18 I/O37 (1D5) (io), M19 I/O20 (1D4) (io), M20 I/O6 (1D3) (io), N17 I/O53 (1D11) (io), N18 I/O38 (1D10) (io), N19 I/O21 (1D8) (io), P18 I/O39 (1D14) (io), P19 I/O22 (1D9) (io), P20 I/O7 (1D7) (io), R17 I/O54 (1A7) (io), R18 I/O40 (1A12) (io), R19 I/O23 (1D13) (io), T18 I/O41 (1A4) (io), T19 I/O24 (1A13) (io), T20 I/O8 (1D12) (io), U8 I/O112 (2B12) (io), U9 I/O105 (2B7) (io), U10 I/O99 (2B2) (io), U11 I/O93 (2A2) (io), U12 I/O87 (2A7) (io), U13 I/O80 (2A12) (io), U15 I/O67 (1B7) (io), U18 I/O42 (1A2) (io), U19 I/O25 (1A8) (io), U20 I/O9 (1D15) (io), V7 I/O119 (2B13) (io), V8 I/O113 (2B9) (io), V9 I/O106 (2B5) (io), V10 I/O100 (2B1) (io), V11 I/O94 (2A1) (io), V12 I/O88 (2A5) (io), V13 I/O81 (2A9) (io), V14 I/O73 (2A13) (io), V15 I/O68 (1B12) (io), V16 I/O61 (1B4) (io), V17 I/O55 (1B3) (io), V19 I/O26 (1A3) (io), V20 I/O10 (1A11) (io), W5 I/O132 (2B15) (io), W6 I/O127 (2B11) (io), W7 I/O120 (2B10) (io), W8 I/O114 (2B6) (io), W9 I/O107 (2B3) (io), W10 I/O101 (2B0) (io), W11 I/O95 (2A0) (io), W12 I/O89 (2A3) (io), W13 I/O82 (2A6) (io), W14 I/O74 (2A10) (io), W15 I/O69 (2A11) (io), W16 I/O62 (2A15) (io), W17 I/O56 (1B11) (io), W18 I/O43 (1B8) (io), W19 I/O27 (1B2) (io), Y5 I/O133 (2B14) (io), Y7 I/O121 (2B8) (io), Y8 I/O115 (2B4) (io), Y13 I/O83 (2A4) (io), Y14 I/O75 (2A8) (io), Y16 I/O63 (2A14) (io), Y17 I/O57 (1B13) (io)
part B pins: A4 I/O134 (4B13) (io), A5 I/O128 (5B14) (io), A7 I/O116 (5B8) (io), A8 I/O108 (5B4) (io), A13 I/O76 (5A4) (io), A14 I/O70 (5A8) (io), A16 I/O58 (5A14) (io), B2 I/O164 (4B2) (io), B3 I/O148 (4B8) (io), B4 I/O135 (4B11) (io), B5 I/O129 (5B15) (io), B6 I/O122 (5B11) (io), B7 I/O117 (5B10) (io), B8 I/O109 (5B6) (io), B9 I/O102 (5B3) (io), B10 I/O96 (5B0) (io), B11 I/O90 (5A0) (io), B12 I/O84 (5A3) (io), B13 I/O77 (5A6) (io), B14 I/O71 (5A10) (io), B15 I/O64 (5A11) (io), B16 I/O59 (5A15) (io), C1 I/O181 (4A11) (io), C2 I/O165 (4A3) (io), C4 I/O136 (4B3) (io), C5 I/O130 (4B4) (io), C6 I/O123 (4B12) (io), C7 I/O118 (5B13) (io), C8 I/O110 (5B9) (io), C9 I/O103 (5B5) (io), C10 I/O97 (5B1) (io), C11 I/O91 (5A1) (io), C12 I/O85 (5A5) (io), C13 I/O78 (5A9) (io), C14 I/O72 (5A13) (io), D1 I/O182 (4D15) (io), D2 I/O166 (4A8) (io), D3 I/O149 (4A2) (io), D6 I/O124 (4B7) (io), D8 I/O111 (5B12) (io), D9 I/O104 (5B7) (io), D10 I/O98 (5B2) (io), D11 I/O92 (5A2) (io), D12 I/O86 (5A7) (io), D13 I/O79 (5A12) (io), E1 I/O183 (4D12) (io), E2 I/O167 (4A13) (io), E3 I/O150 (4A4) (io), F2 I/O168 (4D13) (io), F3 I/O151 (4A12) (io), F4 I/O137 (4A7) (io), G1 I/O184 (4D7) (io), G2 I/O169 (4D9) (io), G3 I/O152 (4D14) (io), H2 I/O170 (4D8) (io), H3 I/O153 (4D10) (io), H4 I/O138 (4D11) (io), J1 I/O185 (4D3) (io), J2 I/O171 (4D4) (io), J3 I/O154 (4D5) (io), J4 I/O139 (4D6) (io), K1 I/O186 (4D2) (io), K3 I/O155 (4D0) (io), K4 I/O140 (4D1) (io), L3 I/O156 (3D0) (io), L4 I/O141 (3D1) (io), M1 I/O187 (3D2) (io), M2 I/O172 (3D3) (io), M3 I/O157 (3D5) (io), M4 I/O142 (3D6) (io), N2 I/O173 (3D4) (io), N3 I/O158 (3D9) (io), N4 I/O143 (3D11) (io), P1 I/O188 (3D7) (io), P2 I/O174 (3D8) (io), P3 I/O159 (3D14) (io), R2 I/O175 (3D12) (io), R3 I/O160 (3A12) (io), R4 I/O144 (3A7) (io), T1 I/O189 (3D10) (io), T2 I/O176 (3A13) (io), T3 I/O161 (3A4) (io), U1 I/O190 (3D13) (io), U2 I/O177 (3A11) (io), U3 I/O162 (3A2) (io), U6 I/O125 (3B7) (io), V1 I/O191 (3D15) (io), V2 I/O178 (3A8) (io), V4 I/O145 (3B3) (io), V5 I/O131 (3B4) (io), V6 I/O126 (3B12) (io), W2 I/O179 (3A3) (io), W3 I/O163 (3B8) (io), W4 I/O146 (3B11) (io), Y2 I/O180 (3B2) (io), Y4 I/O147 (3B13) (io)
part C pins: A1 GND (power), A2 GND (power), A3 GND (power), A6 GND (power), A9 GND (power), A10 GND (power), A11 GND (power), A12 GND (power), A15 GND (power), A18 GND (power), A20 GND (power), B1 GND (power), B20 GND (power), C3 VCC (power), C18 VCC (power), D4 VCC (power), D5 VCC (power), D7 VCC (power), D14 VCC (power), D16 VCC (power), D17 VCC (power), E4 TDO (out), E17 TDI (in), F1 GND (power), F20 GND (power), G4 VCC (power), G17 VCC (power), H1 GND (power), H20 GND (power), K2 I3/CLK3 (in), K19 I0/CLK0 (in), K20 GND (power), L1 GND (power), L2 I2/CLK2 (in), L19 I1/CLK1 (in), N1 GND (power), N20 GND (power), P4 VCC (power), P17 VCC (power), R1 GND (power), R20 GND (power), T4 TMS (in), T17 TCK (in), U4 VCC (power), U5 VCC (power), U7 VCC (power), U14 VCC (power), U16 VCC (power), U17 VCC (power), V3 VCC (power), V18 VCC (power), W1 GND (power), W20 GND (power), Y1 GND (power), Y3 GND (power), Y6 GND (power), Y9 GND (power), Y10 GND (power), Y11 GND (power), Y12 GND (power), Y15 GND (power), Y18 GND (power), Y19 GND (power), Y20 GND (power)

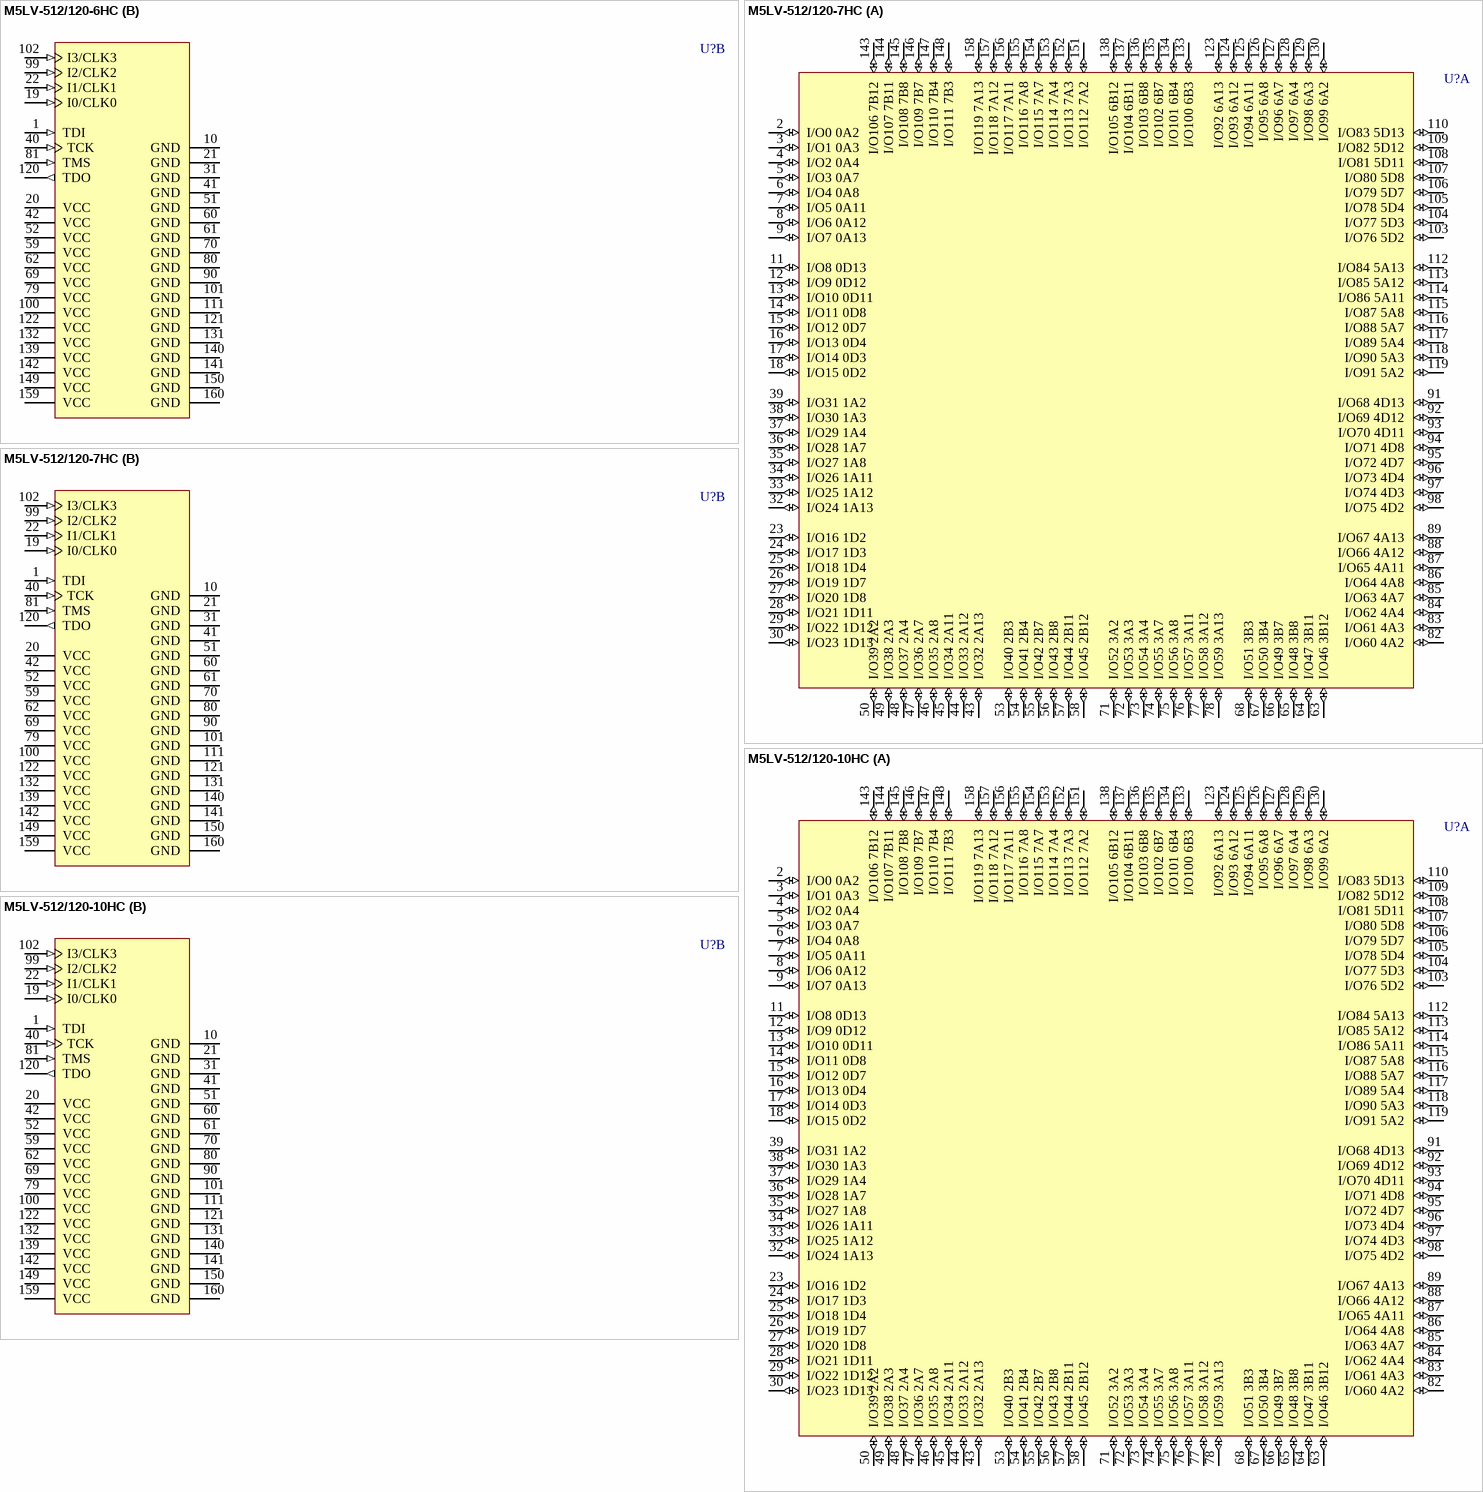
[diagram p258: symbols M5LV-512/120-6HC to M5LV-512/120-10HC]